# Altium schematic symbol library analog-devices.SCHLIB: 264 symbols (part 2 of 4)
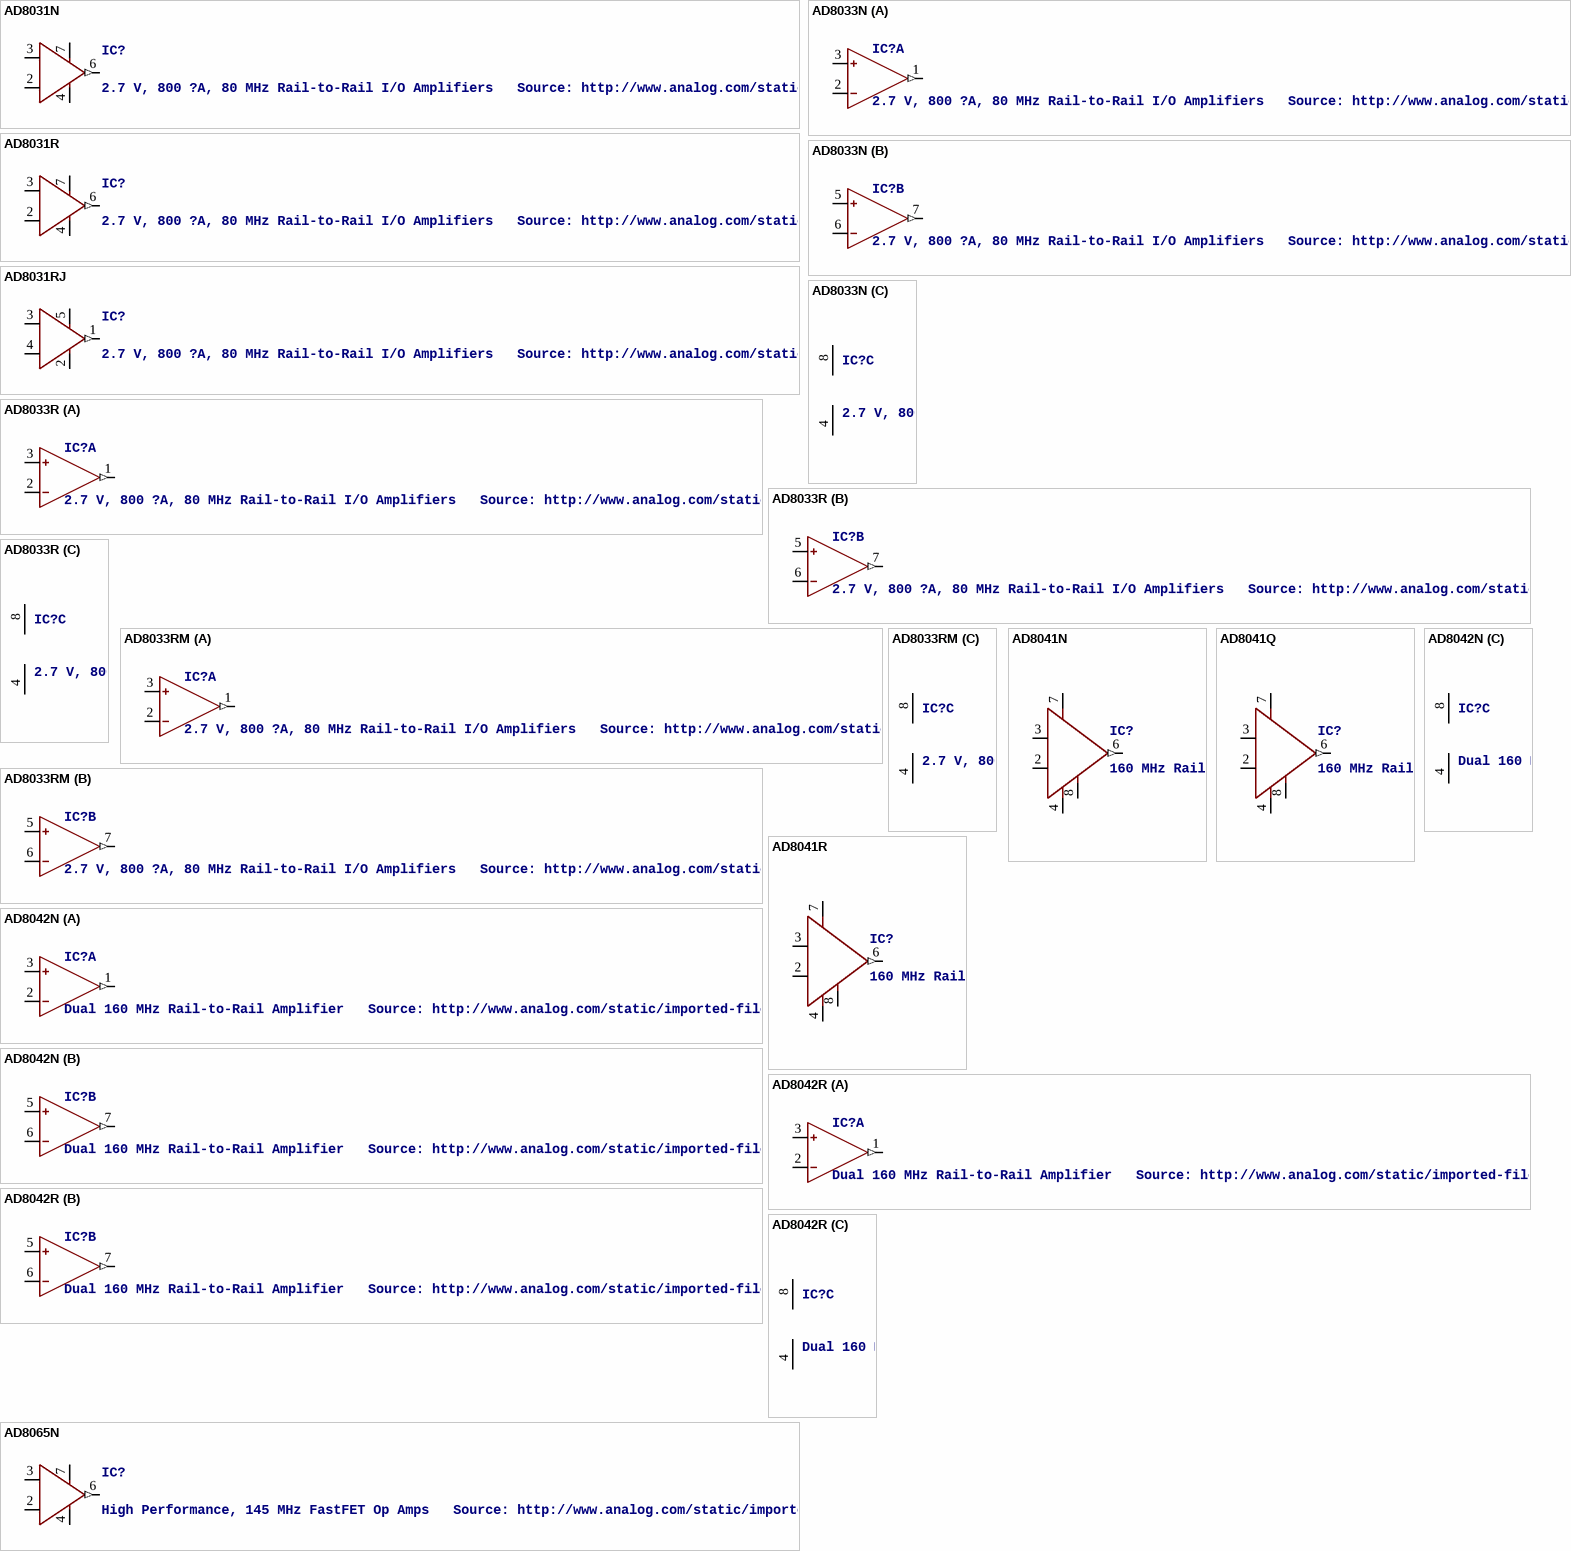
[diagram p44: symbols AD8031N to AD8065N]

## AD8041Q
designator IC?, comment 160 MHz Rail-to-Rail Amplifier with Disable   Source: http://www.analog.com/static/imported-files/data_sheets/AD8041.pdf
MPN: AD8041ANZ; OC_FARNELL: 1438577; OC_NEWARK: 15P0923
footprint DIL08
pins: 2 IN-, 3 IN+, 4 -VS, 6 OUT (out), 7 +VS, 8 DISABLE

## AD8041R
designator IC?, comment 160 MHz Rail-to-Rail Amplifier with Disable   Source: http://www.analog.com/static/imported-files/data_sheets/AD8041.pdf
MPN: AD8041ARZ; MF: ALTERA CORPORATION; OC_FARNELL: 1464831; OC_NEWARK: 88H0130
footprint SO8
pins: 2 IN-, 3 IN+, 4 -VS, 6 OUT (out), 7 +VS, 8 DISABLE

## AD8042N
designator IC?, comment Dual 160 MHz Rail-to-Rail Amplifier   Source: http://www.analog.com/static/imported-files/data_sheets/AD8042.pdf
MPN: AD8042AN; MF: ANALOG DEVICES; OC_FARNELL: 1540543; OC_NEWARK: 52F8033
footprint DIL08
part A pins: 1 OUT (out), 2 IN-, 3 IN+
part B pins: 5 IN+, 6 IN-, 7 OUT (out)
part C pins: 4 V- (power), 8 V+ (power)

## AD8042R
designator IC?, comment Dual 160 MHz Rail-to-Rail Amplifier   Source: http://www.analog.com/static/imported-files/data_sheets/AD8042.pdf
MPN: AD8042AR; MF: ALTERA CORPORATION; OC_FARNELL: 1424032; OC_NEWARK: 52F8034
footprint SO8
part A pins: 1 OUT (out), 2 IN-, 3 IN+
part B pins: 5 IN+, 6 IN-, 7 OUT (out)
part C pins: 4 V- (power), 8 V+ (power)

## AD8065N
designator IC?, comment High Performance, 145 MHz FastFET Op Amps   Source: http://www.analog.com/static/imported-files/data_sheets/AD8065_8066.pdf
OC_FARNELL: unknown; OC_NEWARK: unknown
footprint DIL08
pins: 2 IN-, 3 IN+, 4 -VS, 6 OUT (out), 7 +VS

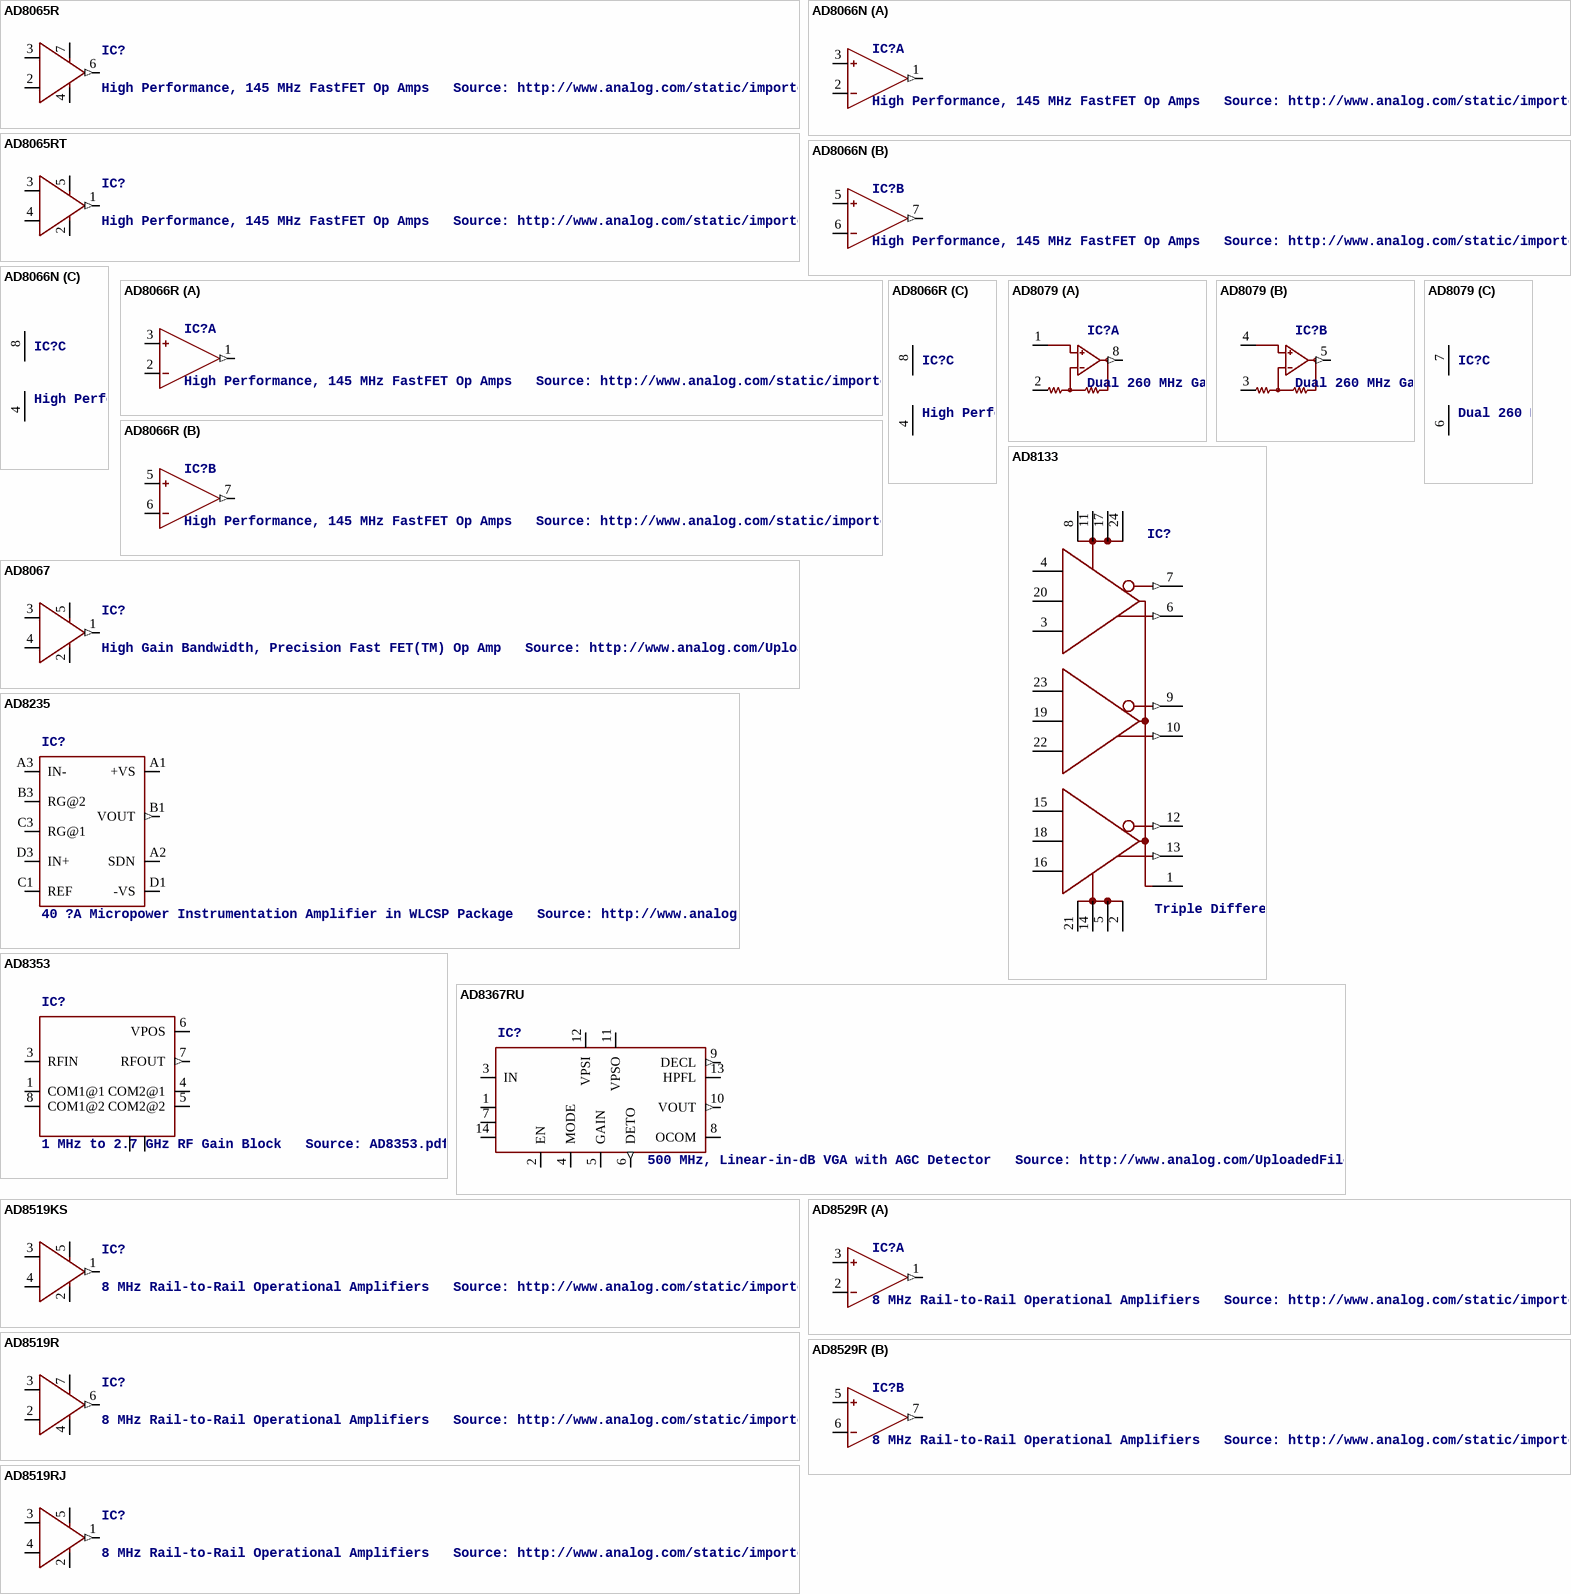
[diagram p12: symbols AD8065R to AD8529R]

## AD8065R
designator IC?, comment High Performance, 145 MHz FastFET Op Amps   Source: http://www.analog.com/static/imported-files/data_sheets/AD8065_8066.pdf
OC_FARNELL: unknown; OC_NEWARK: unknown
footprint SO8
pins: 2 IN-, 3 IN+, 4 -VS, 6 OUT (out), 7 +VS

## AD8065RT
designator IC?, comment High Performance, 145 MHz FastFET Op Amps   Source: http://www.analog.com/static/imported-files/data_sheets/AD8065_8066.pdf
MPN: AD8065ARTZ-REEL7; MF: ALTERA CORPORATION; OC_FARNELL: 1464845; OC_NEWARK: 59K6316
footprint SOT23-5
pins: 1 OUT (out), 2 -VS, 3 IN+, 4 IN-, 5 +VS

## AD8066N
designator IC?, comment High Performance, 145 MHz FastFET Op Amps   Source: http://www.analog.com/static/imported-files/data_sheets/AD8065_8066.pdf
OC_FARNELL: unknown; OC_NEWARK: unknown
footprint DIL08
part A pins: 1 OUT (out), 2 IN-, 3 IN+
part B pins: 5 IN+, 6 IN-, 7 OUT (out)
part C pins: 4 V- (power), 8 V+ (power)

## AD8066R
designator IC?, comment High Performance, 145 MHz FastFET Op Amps   Source: http://www.analog.com/static/imported-files/data_sheets/AD8065_8066.pdf
OC_FARNELL: unknown; OC_NEWARK: unknown
footprint SO8
part A pins: 1 OUT (out), 2 IN-, 3 IN+
part B pins: 5 IN+, 6 IN-, 7 OUT (out)
part C pins: 4 V- (power), 8 V+ (power)

## AD8067
designator IC?, comment High Gain Bandwidth, Precision Fast FET(TM) Op Amp   Source: http://www.analog.com/UploadedFiles/Data_Sheets/346131962AD8067_a.pdf
MPN: AD8067ARTZ-REEL7; MF: ALTERA CORPORATION; OC_FARNELL: 1464848; OC_NEWARK: 59K6326
footprint SOT23-5
pins: 1 OUT (out), 2 -VS, 3 IN+, 4 IN-, 5 +VS

## AD8079
designator IC?, comment Dual 260 MHz Gain = +2.0 & +2.2 Buffer   Source: http://www.analog.com/static/imported-files/data_sheets/AD8079.pdf
MPN: AD8079BRZ; MF: ALTERA CORPORATION; OC_FARNELL: 1838858; OC_NEWARK: 59K6340
footprint SO8
part A pins: 1 IN+, 2 GND, 8 OUT (out)
part B pins: 3 GND, 4 IN+, 5 OUT (out)
part C pins: 6 V- (power), 7 V+ (power)

## AD8133
designator IC?, comment Triple Differential Driver With Output Pull-Down   Source: http://www.analog.com .. 3832984220209AD8133_0.pdf
MPN: AD8133ACPZ-REEL7; MF: ALTERA CORPORATION; OC_FARNELL: unknown; OC_NEWARK: 59K6409
footprint LFCSP24
pins: 1 OPD, 2 VS-@1 (power), 3 -INA, 4 +INA, 5 VS-@2 (power), 6 -OUTA (out), 7 +OUTA (out), 8 VS+@1 (power), 9 +OUTB (out), 10 -OUTB (out), 11 VS+@2 (power), 12 +OUTC (out), 13 -OUTC (out), 14 VS-@3 (power), 15 +INC, 16 -INC, 17 VS+@3 (power), 18 VCOMC, 19 VCOMB, 20 VCOMA, 21 VS-@4 (power), 22 -INB, 23 +INB, 24 VS+@4 (power)

## AD8235
designator IC?, comment 40 ?A Micropower Instrumentation Amplifier in WLCSP Package   Source: http://www.analog.com/static/imported-files/data_sheets/AD8235.pdf
MPN: AD8235ACBZ-P7; OC_FARNELL: 1827361; OC_NEWARK: 35R0266
footprint BGA_CB11
pins: A1 +VS (power), A2 SDN, A3 IN-, B1 VOUT (out), B3 RG@2, C1 REF, C3 RG@1, D1 -VS (power), D3 IN+

## AD8353
designator IC?, comment 1 MHz to 2.7 GHz RF Gain Block   Source: AD8353.pdf
MPN: AD8353ACPZ-REEL7; MF: ALTERA CORPORATION; OC_FARNELL: 1346356; OC_NEWARK: 59K6665
footprint LFCSP_VD08
pins: 1 COM1@1, 3 RFIN, 4 COM2@1, 5 COM2@2, 6 VPOS (power), 7 RFOUT (out), 8 COM1@2, EXP@1, EXP@2

## AD8367RU
designator IC?, comment 500 MHz, Linear-in-dB VGA with AGC Detector   Source: http://www.analog.com/UploadedFiles/Data_Sheets/477808511AD8367_a.pdf
MPN: AD8367ARUZ-RL7; MF: ALTERA CORPORATION; OC_FARNELL: 1424121; OC_NEWARK: 59K6673
footprint TSSOP14
pins: 1 ICOM@1 (power), 2 EN, 3 IN, 4 MODE, 5 GAIN, 6 DETO (out), 7 ICOM@2 (power), 8 OCOM (power), 9 DECL (out), 10 VOUT (out), 11 VPSO (power), 12 VPSI (power), 13 HPFL, 14 ICOM@3 (power)

## AD8519KS
designator IC?, comment 8 MHz Rail-to-Rail Operational Amplifiers   Source: http://www.analog.com/static/imported-files/data_sheets/AD8519_8529.pdf
OC_FARNELL: unknown; OC_NEWARK: unknown
footprint SC70-5
pins: 1 OUT (out), 2 -VS, 3 IN+, 4 IN-, 5 +VS

## AD8519R
designator IC?, comment 8 MHz Rail-to-Rail Operational Amplifiers   Source: http://www.analog.com/static/imported-files/data_sheets/AD8519_8529.pdf
MPN: AD8519ARZ; OC_FARNELL: 9603840; OC_NEWARK: 19M8912
footprint SO8
pins: 2 IN-, 3 IN+, 4 -VS, 6 OUT (out), 7 +VS

## AD8519RJ
designator IC?, comment 8 MHz Rail-to-Rail Operational Amplifiers   Source: http://www.analog.com/static/imported-files/data_sheets/AD8519_8529.pdf
MPN: AD8519ARTZ-REEL7; MF: ALTERA CORPORATION; OC_FARNELL: 1464960; OC_NEWARK: 59K6794
footprint SOT23-5
pins: 1 OUT (out), 2 -VS, 3 IN+, 4 IN-, 5 +VS

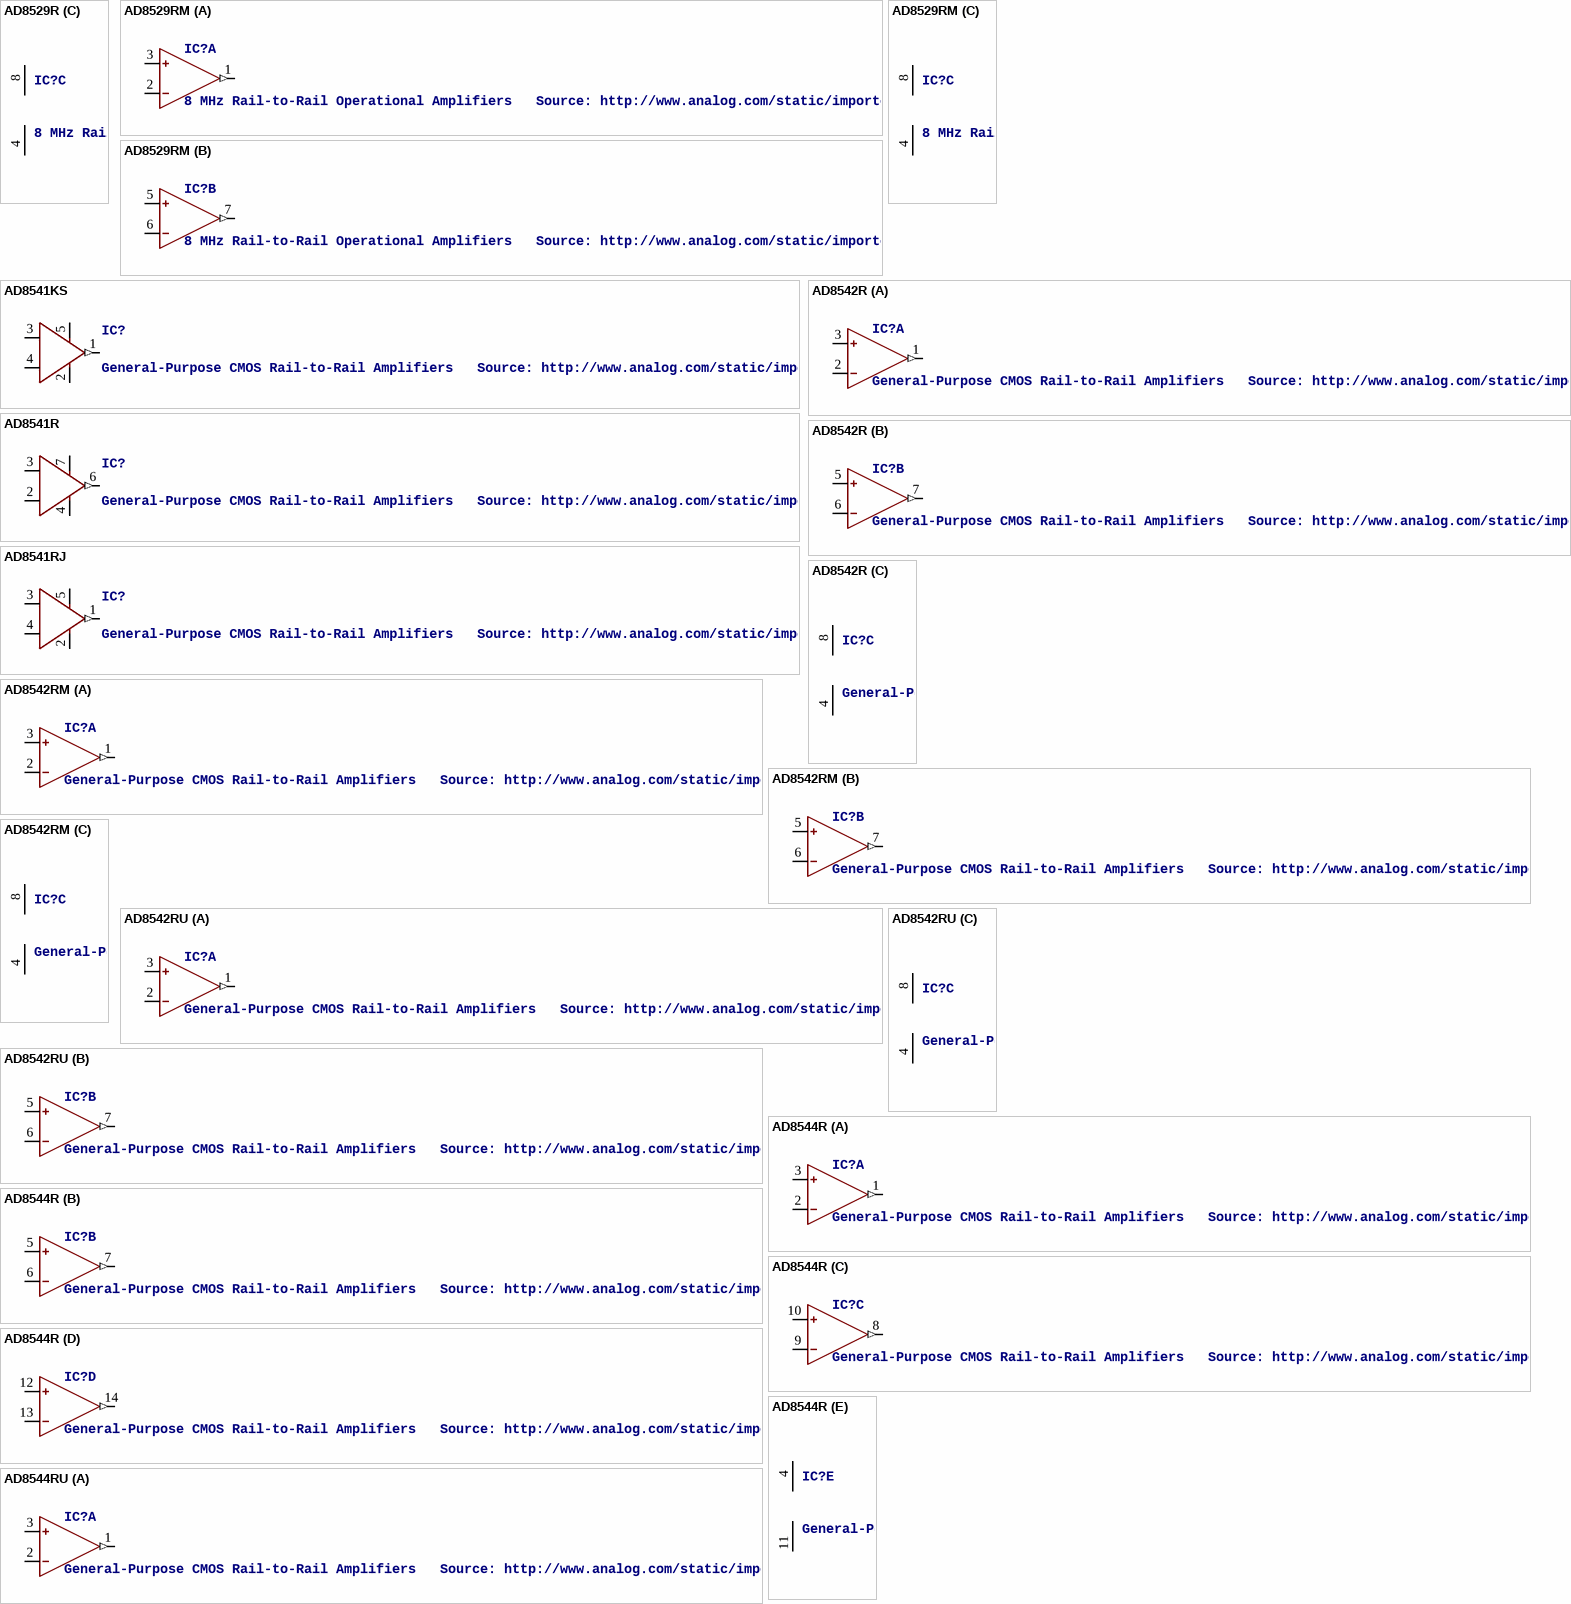
[diagram p13: symbols AD8529R to AD8544RU]

## AD8529R
designator IC?, comment 8 MHz Rail-to-Rail Operational Amplifiers   Source: http://www.analog.com/static/imported-files/data_sheets/AD8519_8529.pdf
MPN: AD8529ARZ; MF: ALTERA CORPORATION; OC_FARNELL: unknown; OC_NEWARK: 59K6807
footprint SO8
part A pins: 1 OUT (out), 2 IN-, 3 IN+
part B pins: 5 IN+, 6 IN-, 7 OUT (out)
part C pins: 4 V- (power), 8 V+ (power)

## AD8529RM
designator IC?, comment 8 MHz Rail-to-Rail Operational Amplifiers   Source: http://www.analog.com/static/imported-files/data_sheets/AD8519_8529.pdf
OC_FARNELL: 1424141; OC_NEWARK: unknown
footprint MSOP08
part A pins: 1 OUT (out), 2 IN-, 3 IN+
part B pins: 5 IN+, 6 IN-, 7 OUT (out)
part C pins: 4 V- (power), 8 V+ (power)

## AD8541KS
designator IC?, comment General-Purpose CMOS Rail-to-Rail Amplifiers   Source: http://www.analog.com/static/imported-files/data_sheets/AD8541_8542_8544.pdf
MPN: AD8541AKSZ-REEL7; MF: ALTERA CORPORATION; OC_FARNELL: 1333253; OC_NEWARK: 59K6818
footprint SC70-5
pins: 1 OUT (out), 2 -VS, 3 IN+, 4 IN-, 5 +VS

## AD8541R
designator IC?, comment General-Purpose CMOS Rail-to-Rail Amplifiers   Source: http://www.analog.com/static/imported-files/data_sheets/AD8541_8542_8544.pdf
MPN: AD8541ARZ; OC_FARNELL: 9603859; OC_NEWARK: 31M4547
footprint SO8
pins: 2 IN-, 3 IN+, 4 -VS, 6 OUT (out), 7 +VS

## AD8541RJ
designator IC?, comment General-Purpose CMOS Rail-to-Rail Amplifiers   Source: http://www.analog.com/static/imported-files/data_sheets/AD8541_8542_8544.pdf
MPN: AD8541ARTZ-REEL7; MF: ALTERA CORPORATION; OC_FARNELL: 1464963; OC_NEWARK: 88H0268
footprint SOT23-5
pins: 1 OUT (out), 2 -VS, 3 IN+, 4 IN-, 5 +VS

## AD8542R
designator IC?, comment General-Purpose CMOS Rail-to-Rail Amplifiers   Source: http://www.analog.com/static/imported-files/data_sheets/AD8541_8542_8544.pdf
MPN: AD8542ARZ-REEL; MF: ALTERA CORPORATION; OC_FARNELL: 1424150; OC_NEWARK: 59K6827
footprint SO8
part A pins: 1 OUT (out), 2 IN-, 3 IN+
part B pins: 5 IN+, 6 IN-, 7 OUT (out)
part C pins: 4 V- (power), 8 V+ (power)

## AD8542RM
designator IC?, comment General-Purpose CMOS Rail-to-Rail Amplifiers   Source: http://www.analog.com/static/imported-files/data_sheets/AD8541_8542_8544.pdf
MPN: AD8542ARZ; OC_FARNELL: 1464965; OC_NEWARK: 19M0965
footprint MSOP08
part A pins: 1 OUT (out), 2 IN-, 3 IN+
part B pins: 5 IN+, 6 IN-, 7 OUT (out)
part C pins: 4 V- (power), 8 V+ (power)

## AD8542RU
designator IC?, comment General-Purpose CMOS Rail-to-Rail Amplifiers   Source: http://www.analog.com/static/imported-files/data_sheets/AD8541_8542_8544.pdf
MPN: AD8542ARUZ; MF: ALTERA CORPORATION; OC_FARNELL: 1333256; OC_NEWARK: 88H0269
footprint TSSOP8
part A pins: 1 OUT (out), 2 IN-, 3 IN+
part B pins: 5 IN+, 6 IN-, 7 OUT (out)
part C pins: 4 V- (power), 8 V+ (power)

## AD8544R
designator IC?, comment General-Purpose CMOS Rail-to-Rail Amplifiers   Source: http://www.analog.com/static/imported-files/data_sheets/AD8541_8542_8544.pdf
MPN: AD8544ARZ; OC_FARNELL: 9425748; OC_NEWARK: 19M0966
footprint SO14
part A pins: 1 OUT (out), 2 IN-, 3 IN+
part B pins: 5 IN+, 6 IN-, 7 OUT (out)
part C pins: 8 OUT (out), 9 IN-, 10 IN+
part D pins: 12 IN+, 13 IN-, 14 OUT (out)
part E pins: 4 V+ (power), 11 V- (power)

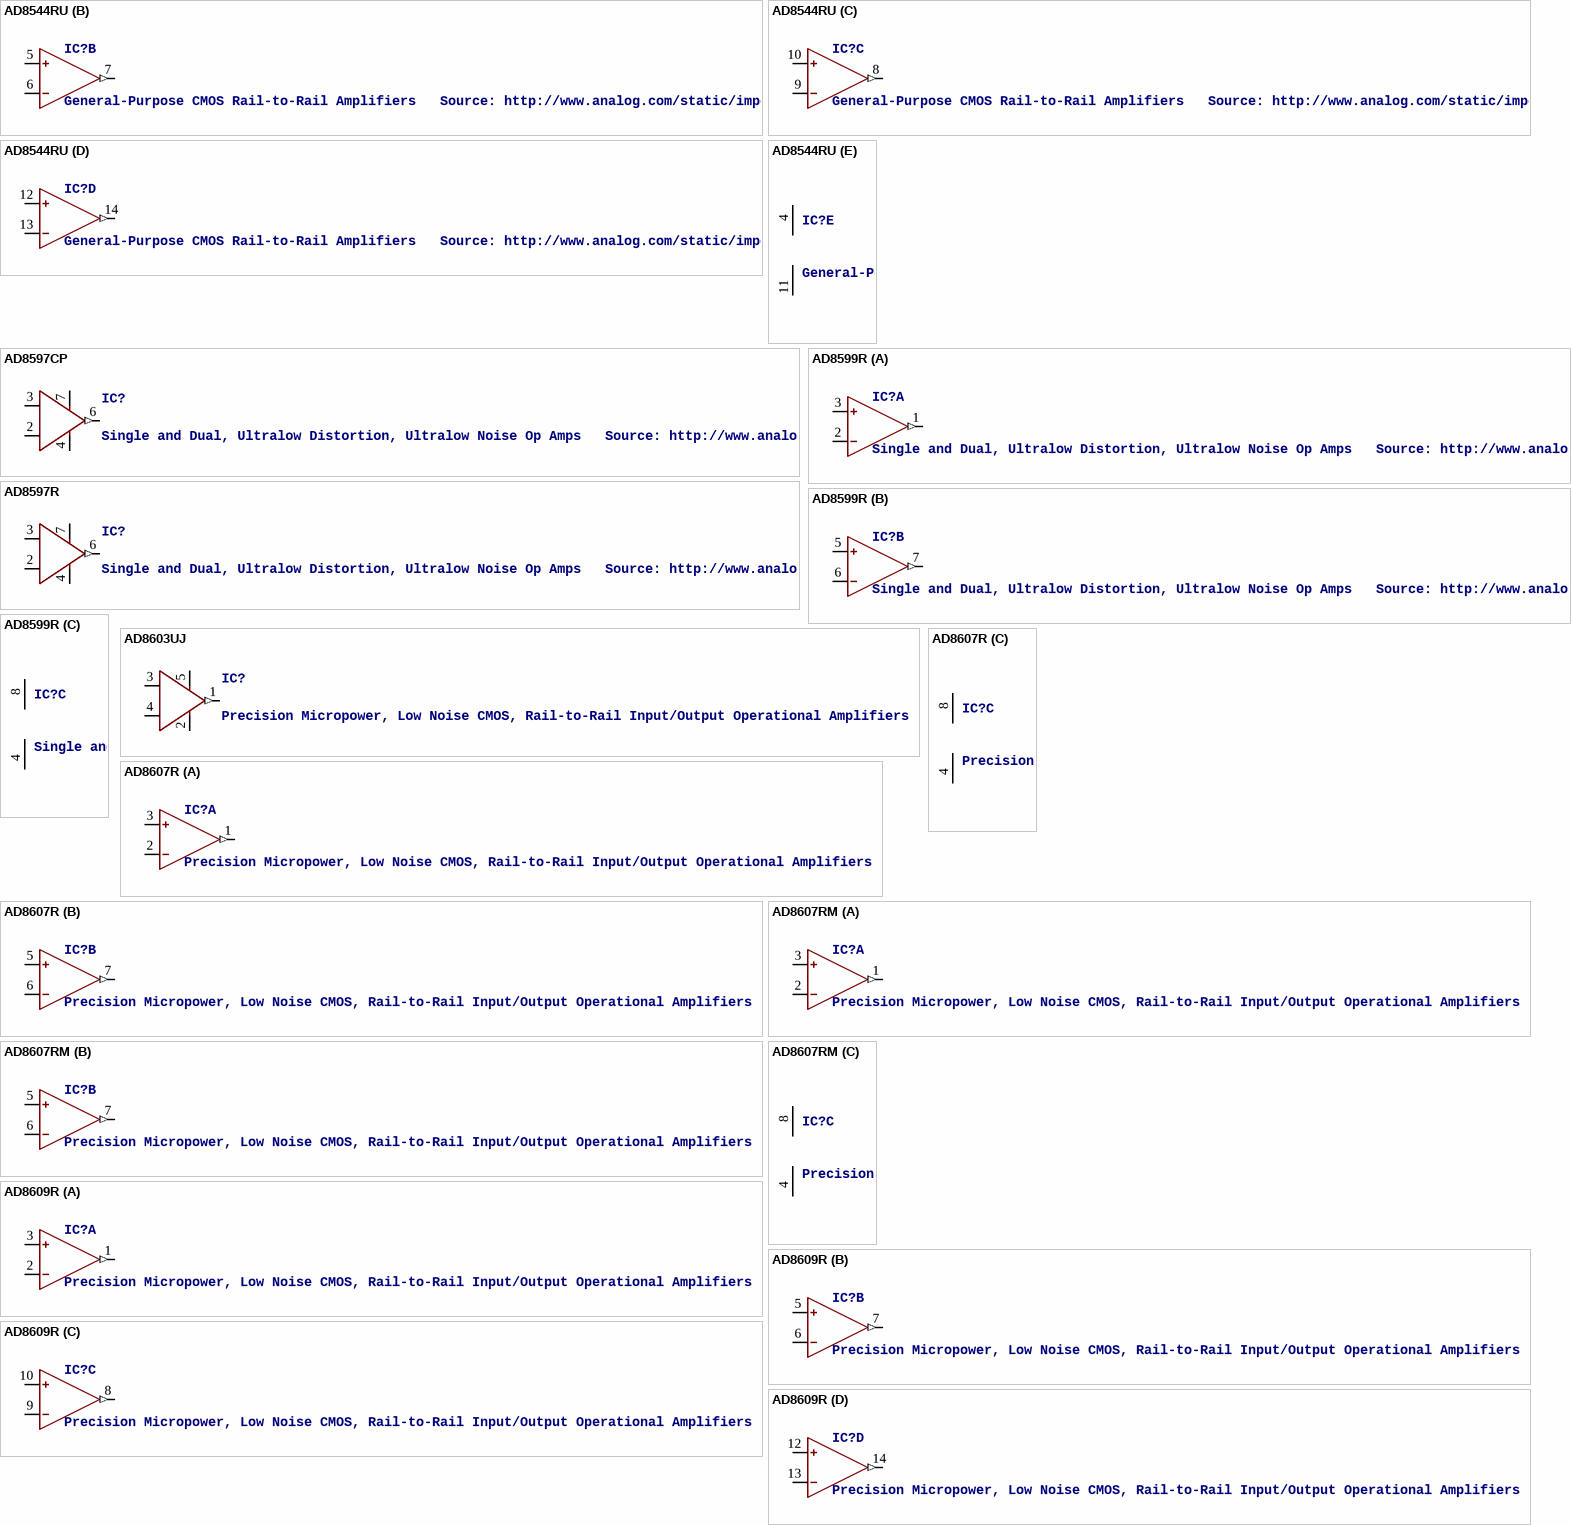
[diagram p14: symbols AD8544RU to AD8609R]

## AD8544RU
designator IC?, comment General-Purpose CMOS Rail-to-Rail Amplifiers   Source: http://www.analog.com/static/imported-files/data_sheets/AD8541_8542_8544.pdf
MPN: AD8544ARUZ; OC_FARNELL: unknown; OC_NEWARK: 15P1001
footprint TSSOP14
part A pins: 1 OUT (out), 2 IN-, 3 IN+
part B pins: 5 IN+, 6 IN-, 7 OUT (out)
part C pins: 8 OUT (out), 9 IN-, 10 IN+
part D pins: 12 IN+, 13 IN-, 14 OUT (out)
part E pins: 4 V+ (power), 11 V- (power)

## AD8597CP
designator IC?, comment Single and Dual, Ultralow Distortion, Ultralow Noise Op Amps   Source: http://www.analog.com/static/imported-files/data_sheets/AD8597_8599.pdf
OC_FARNELL: unknown; OC_NEWARK: unknown
footprint LFCSP8
pins: 2 IN-, 3 IN+, 4 -VS, 6 OUT (out), 7 +VS

## AD8597R
designator IC?, comment Single and Dual, Ultralow Distortion, Ultralow Noise Op Amps   Source: http://www.analog.com/static/imported-files/data_sheets/AD8597_8599.pdf
MPN: AD8597ARZ; OC_FARNELL: 1701258; OC_NEWARK: 19P8303
footprint SO8
pins: 2 IN-, 3 IN+, 4 -VS, 6 OUT (out), 7 +VS

## AD8599R
designator IC?, comment Single and Dual, Ultralow Distortion, Ultralow Noise Op Amps   Source: http://www.analog.com/static/imported-files/data_sheets/AD8597_8599.pdf
MPN: AD8599ARZ; OC_FARNELL: 1438872; OC_NEWARK: 34M5072
footprint SO8
part A pins: 1 OUT (out), 2 IN-, 3 IN+
part B pins: 5 IN+, 6 IN-, 7 OUT (out)
part C pins: 4 V- (power), 8 V+ (power)

## AD8603UJ
designator IC?, comment Precision Micropower, Low Noise CMOS, Rail-to-Rail Input/Output Operational Amplifiers   Source: http://www.analog.com/static/imported-files/data_sheets/AD8603_8607_8609.pdf
MPN: AD8603AUJZ-REEL7; MF: ALTERA CORPORATION; OC_FARNELL: 1651290; OC_NEWARK: 59K6904
footprint SOT23-5
pins: 1 OUT (out), 2 -VS, 3 IN+, 4 IN-, 5 +VS

## AD8607R
designator IC?, comment Precision Micropower, Low Noise CMOS, Rail-to-Rail Input/Output Operational Amplifiers   Source: http://www.analog.com/static/imported-files/data_sheets/AD8603_8607_8609.pdf
MPN: AD8607ARMZ-R2; OC_FARNELL: 1651293; OC_NEWARK: 19M8927
footprint SO8
part A pins: 1 OUT (out), 2 IN-, 3 IN+
part B pins: 5 IN+, 6 IN-, 7 OUT (out)
part C pins: 4 V- (power), 8 V+ (power)

## AD8607RM
designator IC?, comment Precision Micropower, Low Noise CMOS, Rail-to-Rail Input/Output Operational Amplifiers   Source: http://www.analog.com/static/imported-files/data_sheets/AD8603_8607_8609.pdf
MPN: AD8607ARMZ-REEL; MF: ALTERA CORPORATION; OC_FARNELL: 1464990; OC_NEWARK: 59K6925
footprint MSOP08
part A pins: 1 OUT (out), 2 IN-, 3 IN+
part B pins: 5 IN+, 6 IN-, 7 OUT (out)
part C pins: 4 V- (power), 8 V+ (power)

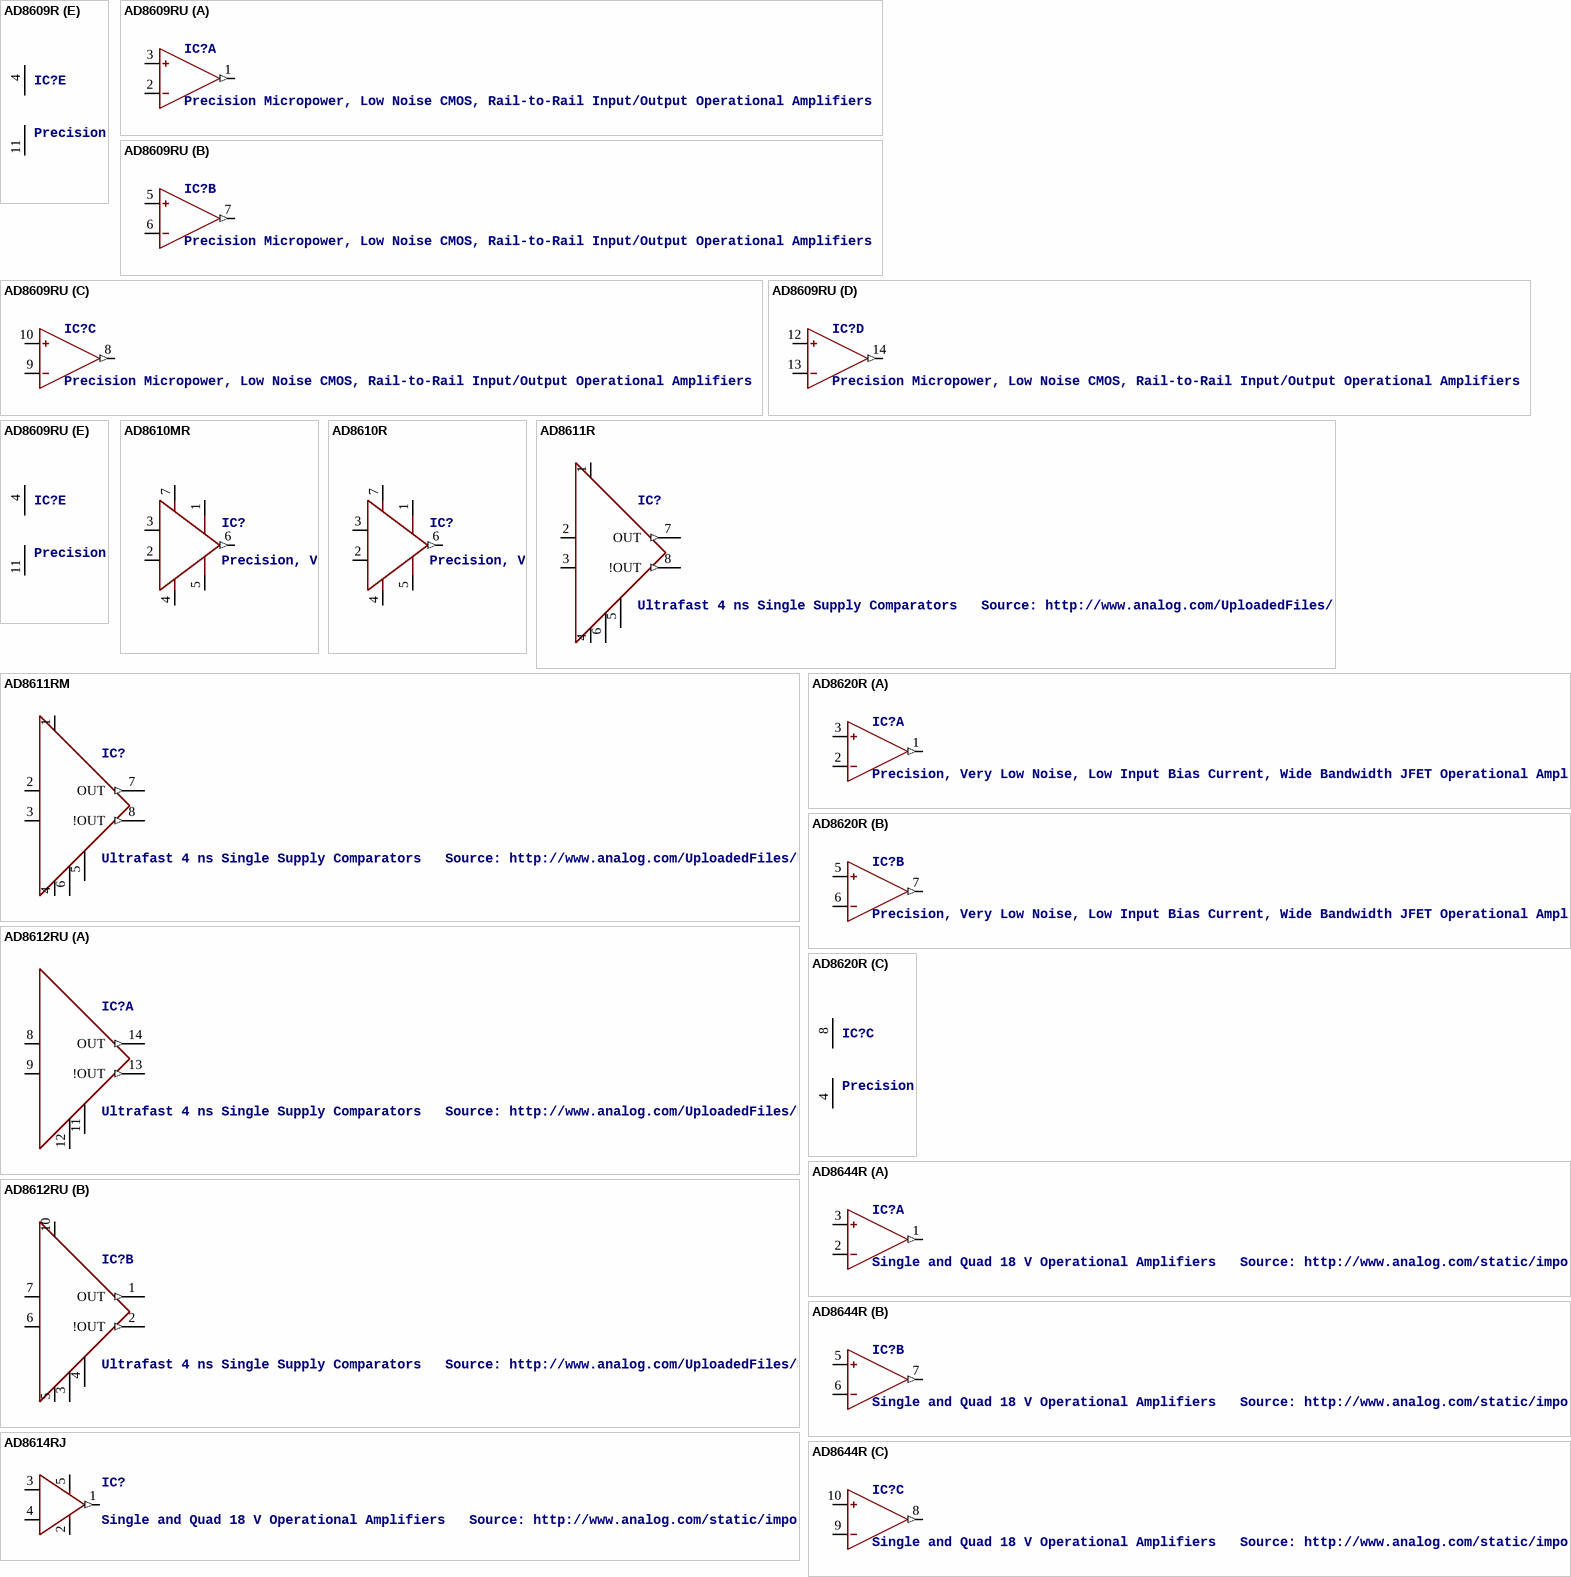
[diagram p15: symbols AD8609R to AD8644R]

## AD8609R
designator IC?, comment Precision Micropower, Low Noise CMOS, Rail-to-Rail Input/Output Operational Amplifiers   Source: http://www.analog.com/static/imported-files/data_sheets/AD8603_8607_8609.pdf
MPN: AD8609ARZ; OC_FARNELL: 1581951; OC_NEWARK: 19M0976
footprint SO14
part A pins: 1 OUT (out), 2 IN-, 3 IN+
part B pins: 5 IN+, 6 IN-, 7 OUT (out)
part C pins: 8 OUT (out), 9 IN-, 10 IN+
part D pins: 12 IN+, 13 IN-, 14 OUT (out)
part E pins: 4 V+ (power), 11 V- (power)

## AD8609RU
designator IC?, comment Precision Micropower, Low Noise CMOS, Rail-to-Rail Input/Output Operational Amplifiers   Source: http://www.analog.com/static/imported-files/data_sheets/AD8603_8607_8609.pdf
MPN: AD8609ARUZ; MF: ALTERA CORPORATION; OC_FARNELL: 1464994; OC_NEWARK: 59K6934
footprint TSSOP14
part A pins: 1 OUT (out), 2 IN-, 3 IN+
part B pins: 5 IN+, 6 IN-, 7 OUT (out)
part C pins: 8 OUT (out), 9 IN-, 10 IN+
part D pins: 12 IN+, 13 IN-, 14 OUT (out)
part E pins: 4 V+ (power), 11 V- (power)

## AD8610MR
designator IC?, comment Precision, Very Low Noise, Low Input Bias Current, Wide Bandwidth JFET Operational Amplifiers   Source: http://www.analog.com/static/imported-files/data_sheets/AD8610_8620.pdf
MPN: AD8610ARMZ-REEL; MF: ALTERA CORPORATION; OC_FARNELL: 1424175; OC_NEWARK: 59K6939
footprint MSOP08
pins: 1 OFF@1, 2 IN-, 3 IN+, 4 -VS, 5 OFF@2, 6 OUT (out), 7 +VS

## AD8610R
designator IC?, comment Precision, Very Low Noise, Low Input Bias Current, Wide Bandwidth JFET Operational Amplifiers   Source: http://www.analog.com/static/imported-files/data_sheets/AD8610_8620.pdf
MPN: AD8610BRZ; MF: ALTERA CORPORATION; OC_FARNELL: 8621578; OC_NEWARK: 59K6944
footprint SO8
pins: 1 OFF@1, 2 IN-, 3 IN+, 4 -VS, 5 OFF@2, 6 OUT (out), 7 +VS

## AD8611R
designator IC?, comment Ultrafast 4 ns Single Supply Comparators   Source: http://www.analog.com/UploadedFiles/Data_Sheets/703465986AD8611_2_0.pdf Upgrade for LT1394 and LT1016 Designs
MPN: AD8611ARMZ-R2; OC_FARNELL: 1319472; OC_NEWARK: 19M8930
footprint SO8
pins: 1 V+ (power), 2 IN+, 3 IN-, 4 V- (power), 5 L, 6 GND (power), 7 OUT (out), 8 !OUT (out)

## AD8611RM
designator IC?, comment Ultrafast 4 ns Single Supply Comparators   Source: http://www.analog.com/UploadedFiles/Data_Sheets/703465986AD8611_2_0.pdf Upgrade for LT1394 and LT1016 Designs
MPN: AD8611ARMZ-R2; OC_FARNELL: 1464995; OC_NEWARK: 19M8930
footprint MSOP08
pins: 1 V+ (power), 2 IN+, 3 IN-, 4 V- (power), 5 L, 6 GND (power), 7 OUT (out), 8 !OUT (out)

## AD8612RU
designator IC?, comment Ultrafast 4 ns Single Supply Comparators   Source: http://www.analog.com/UploadedFiles/Data_Sheets/703465986AD8611_2_0.pdf Upgrade for LT1394 and LT1016 Designs
MPN: AD8612ARUZ; MF: ALTERA CORPORATION; OC_FARNELL: 1464996; OC_NEWARK: 88H0301
footprint TSSOP14
part A pins: 8 IN+, 9 IN-, 11 L, 12 GND (power), 13 !OUT (out), 14 OUT (out)
part B pins: 1 OUT (out), 2 !OUT (out), 3 GND (power), 4 L, 5 V- (power), 6 IN-, 7 IN+, 10 V+ (power)

## AD8614RJ
designator IC?, comment Single and Quad 18 V Operational Amplifiers   Source: http://www.analog.com/static/imported-files/data_sheets/AD8614_8644.pdf
MPN: AD8614ARTZ-REEL7; MF: ALTERA CORPORATION; OC_FARNELL: 1464998; OC_NEWARK: 88H0303
footprint SOT23-5
pins: 1 OUT (out), 2 -VS, 3 IN+, 4 IN-, 5 +VS

## AD8620R
designator IC?, comment Precision, Very Low Noise, Low Input Bias Current, Wide Bandwidth JFET Operational Amplifiers   Source: http://www.analog.com/static/imported-files/data_sheets/AD8610_8620.pdf
MPN: AD8620ARZ; MF: ALTERA CORPORATION; OC_FARNELL: 9994386; OC_NEWARK: 59K6972
footprint SO8
part A pins: 1 OUT (out), 2 IN-, 3 IN+
part B pins: 5 IN+, 6 IN-, 7 OUT (out)
part C pins: 4 V- (power), 8 V+ (power)

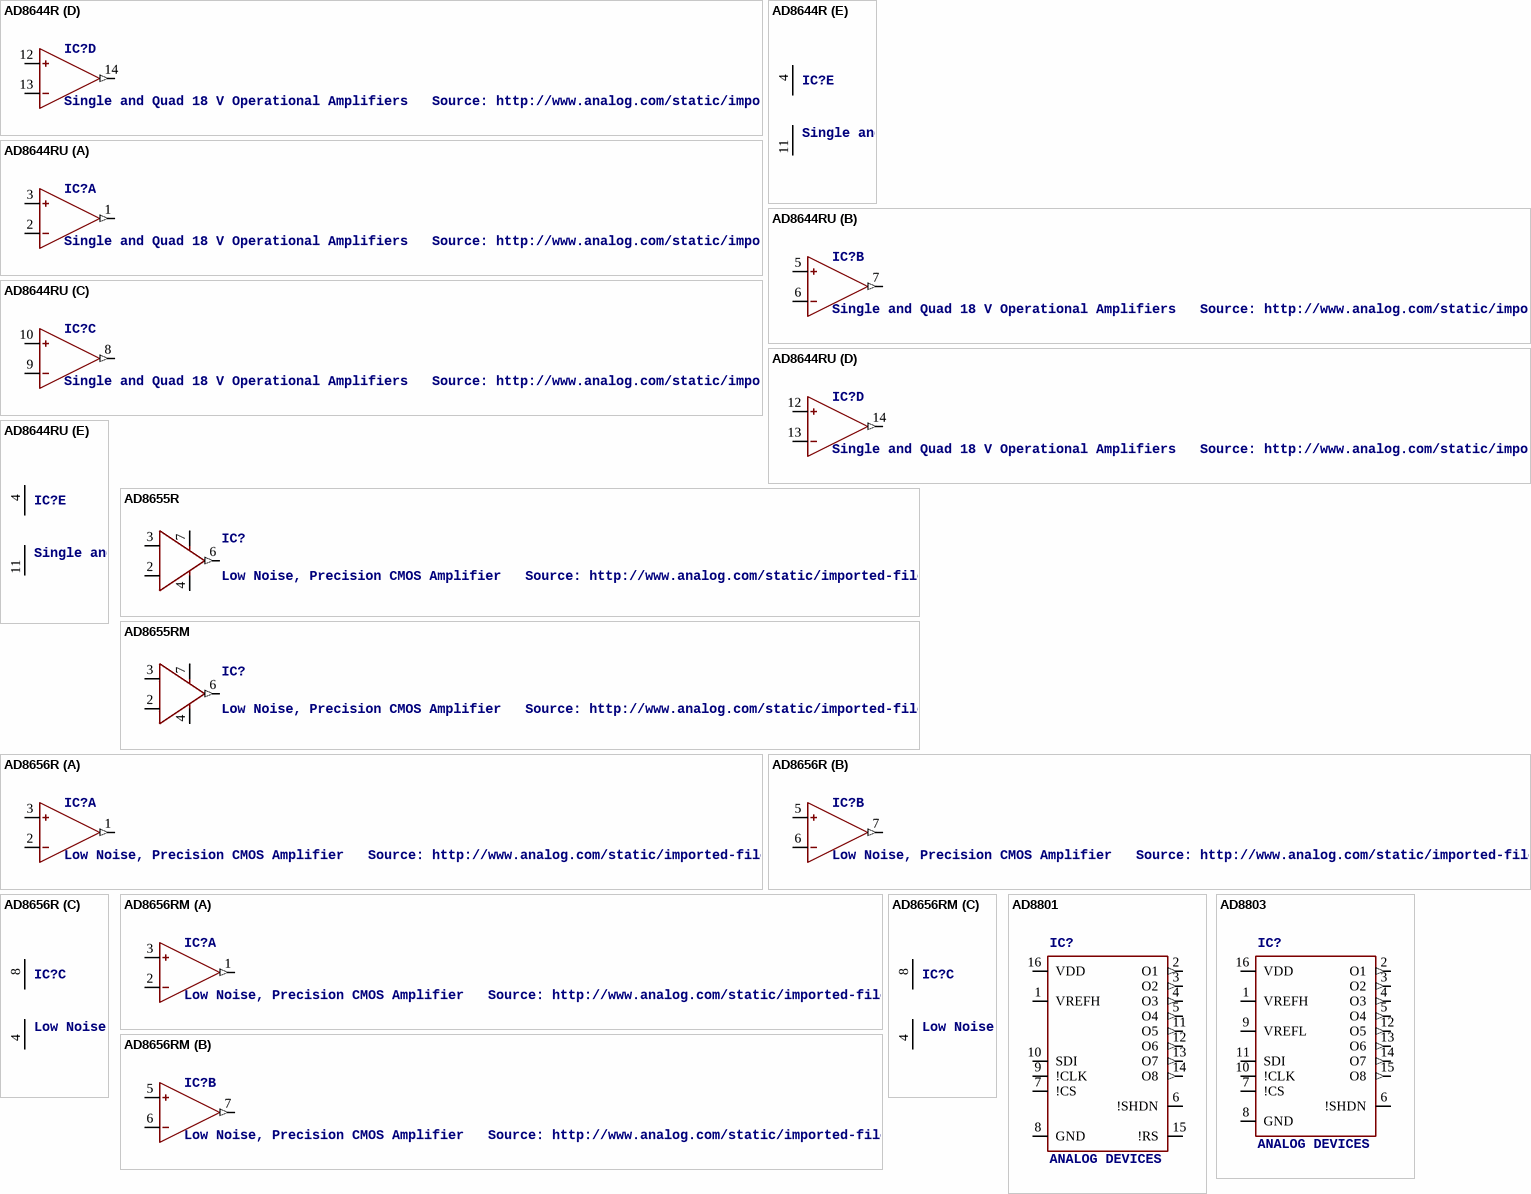
[diagram p16: symbols AD8644R to AD8803]

## AD8644R
designator IC?, comment Single and Quad 18 V Operational Amplifiers   Source: http://www.analog.com/static/imported-files/data_sheets/AD8614_8644.pdf
MPN: AD8644ARZ; MF: ALTERA CORPORATION; OC_FARNELL: 1438873; OC_NEWARK: 59K7037
footprint SO14
part A pins: 1 OUT (out), 2 IN-, 3 IN+
part B pins: 5 IN+, 6 IN-, 7 OUT (out)
part C pins: 8 OUT (out), 9 IN-, 10 IN+
part D pins: 12 IN+, 13 IN-, 14 OUT (out)
part E pins: 4 V+ (power), 11 V- (power)

## AD8644RU
designator IC?, comment Single and Quad 18 V Operational Amplifiers   Source: http://www.analog.com/static/imported-files/data_sheets/AD8614_8644.pdf
MPN: AD8644ARUZ; MF: ALTERA CORPORATION; OC_FARNELL: 1438873; OC_NEWARK: 59K7036
footprint TSSOP14
part A pins: 1 OUT (out), 2 IN-, 3 IN+
part B pins: 5 IN+, 6 IN-, 7 OUT (out)
part C pins: 8 OUT (out), 9 IN-, 10 IN+
part D pins: 12 IN+, 13 IN-, 14 OUT (out)
part E pins: 4 V+ (power), 11 V- (power)

## AD8655R
designator IC?, comment Low Noise, Precision CMOS Amplifier   Source: http://www.analog.com/static/imported-files/data_sheets/AD8655_8656.pdf
MPN: AD8655ARMZ-REEL; MF: ALTERA CORPORATION; OC_FARNELL: 1078267; OC_NEWARK: 59K7050
footprint SO8
pins: 2 IN-, 3 IN+, 4 -VS, 6 OUT (out), 7 +VS

## AD8655RM
designator IC?, comment Low Noise, Precision CMOS Amplifier   Source: http://www.analog.com/static/imported-files/data_sheets/AD8655_8656.pdf
MPN: AD8655ARZ; MF: ALTERA CORPORATION; OC_FARNELL: 1078267; OC_NEWARK: 59K7052
footprint MSOP08
pins: 2 IN-, 3 IN+, 4 -VS, 6 OUT (out), 7 +VS

## AD8656R
designator IC?, comment Low Noise, Precision CMOS Amplifier   Source: http://www.analog.com/static/imported-files/data_sheets/AD8655_8656.pdf
MPN: AD8656ARZ; OC_FARNELL: 1117887; OC_NEWARK: 19M0993
footprint SO8
part A pins: 1 OUT (out), 2 IN-, 3 IN+
part B pins: 5 IN+, 6 IN-, 7 OUT (out)
part C pins: 4 V- (power), 8 V+ (power)

## AD8656RM
designator IC?, comment Low Noise, Precision CMOS Amplifier   Source: http://www.analog.com/static/imported-files/data_sheets/AD8655_8656.pdf
MPN: AD8656ARMZ; OC_FARNELL: 1117887; OC_NEWARK: 34P3252
footprint MSOP08
part A pins: 1 OUT (out), 2 IN-, 3 IN+
part B pins: 5 IN+, 6 IN-, 7 OUT (out)
part C pins: 4 V- (power), 8 V+ (power)

## AD8801
designator IC?, comment ANALOG DEVICES
OC_FARNELL: unknown; OC_NEWARK: unknown
footprint SOIC16N
pins: 1 VREFH, 2 O1 (out), 3 O2 (out), 4 O3 (out), 5 O4 (out), 6 !SHDN, 7 !CS, 8 GND (power), 9 !CLK, 10 SDI, 11 O5 (out), 12 O6 (out), 13 O7 (out), 14 O8 (out), 15 !RS, 16 VDD (power)

## AD8803
designator IC?, comment ANALOG DEVICES
OC_FARNELL: unknown; OC_NEWARK: unknown
footprint SOIC16N
pins: 1 VREFH, 2 O1 (out), 3 O2 (out), 4 O3 (out), 5 O4 (out), 6 !SHDN, 7 !CS, 8 GND (power), 9 VREFL, 10 !CLK, 11 SDI, 12 O5 (out), 13 O6 (out), 14 O7 (out), 15 O8 (out), 16 VDD (power)

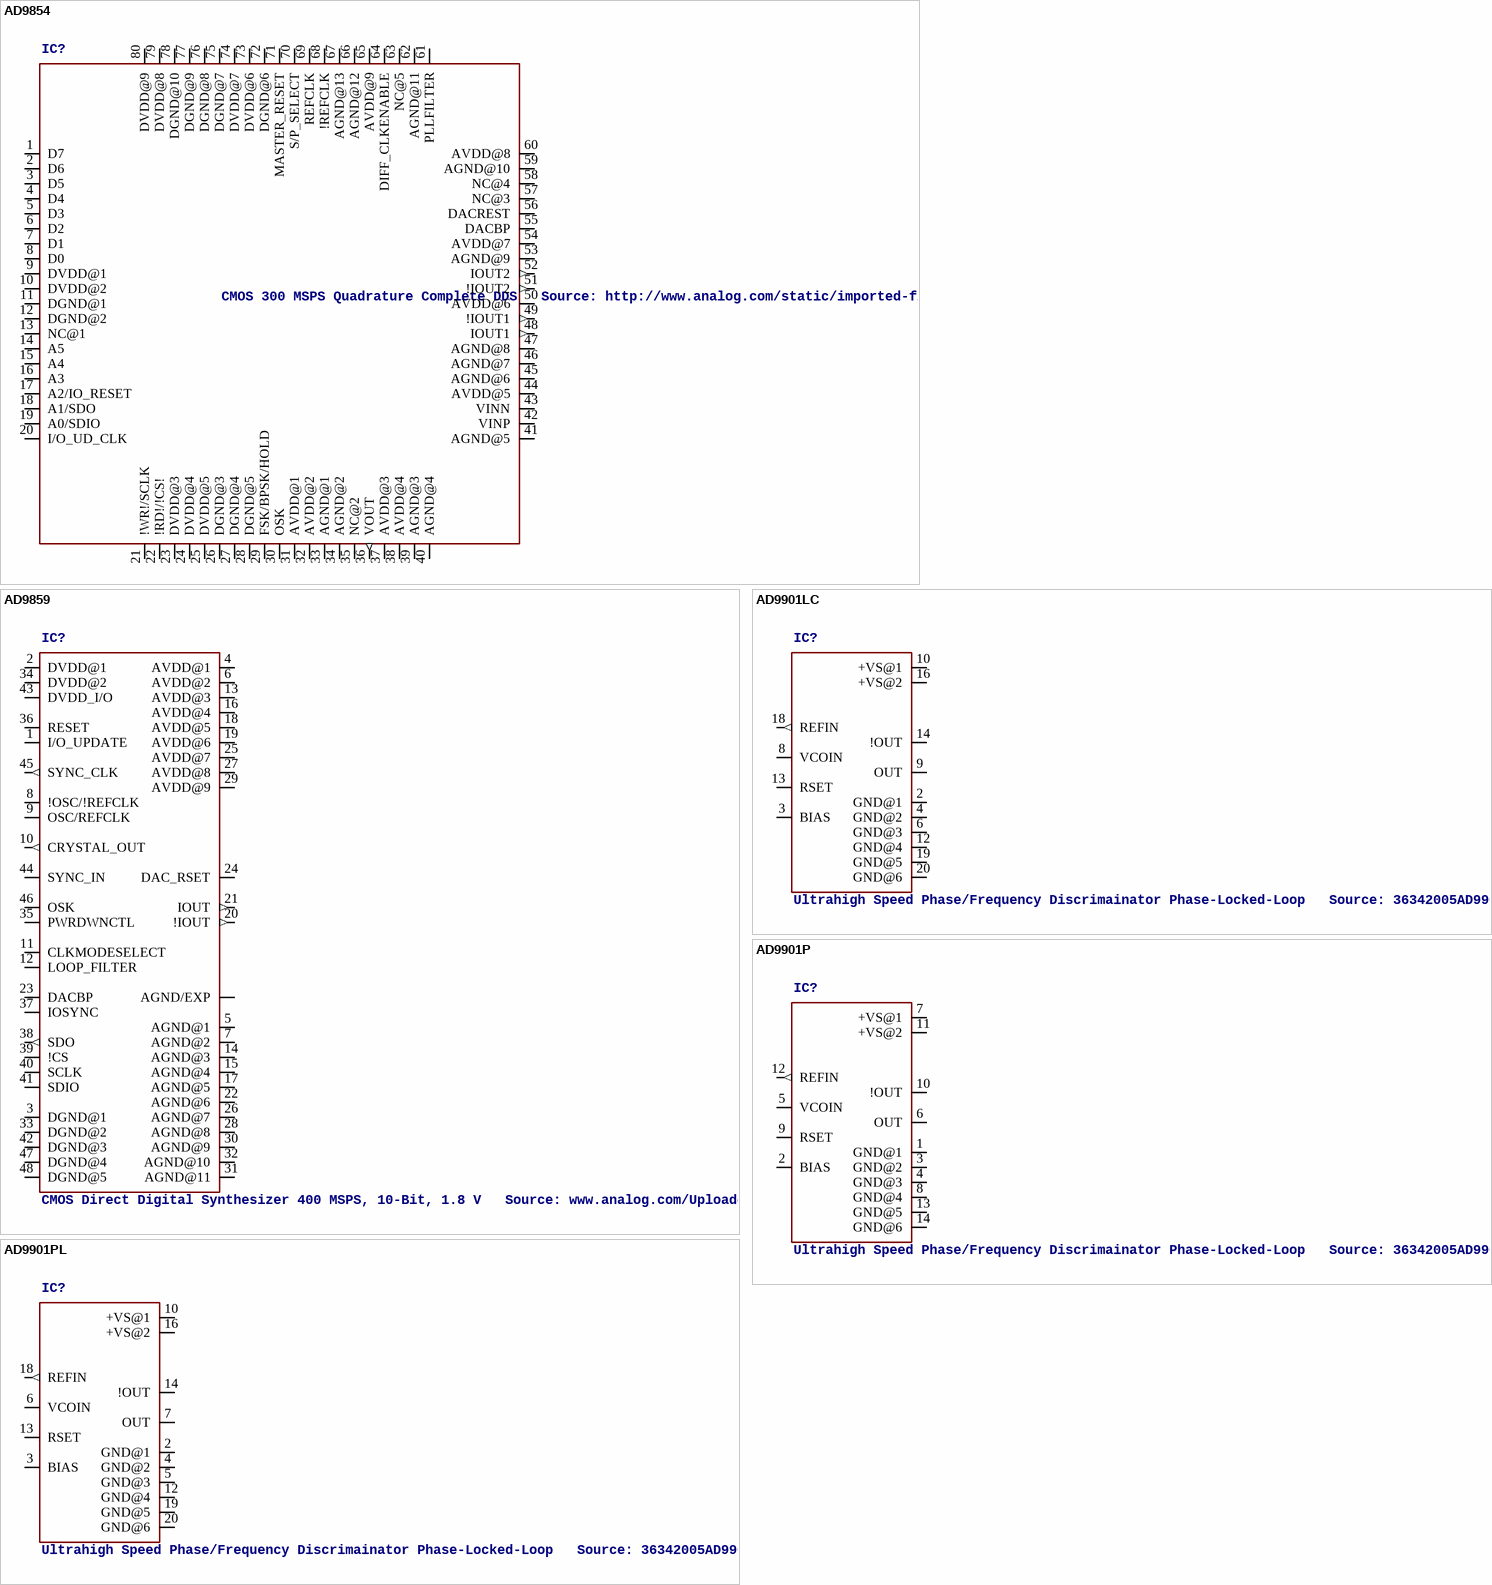
[diagram p17: symbols AD9854 to AD9901PL]

## AD9854
designator IC?, comment CMOS 300 MSPS Quadrature Complete DDS   Source: http://www.analog.com/static/imported-files/data_sheets/AD9854.pdf
MPN: AD9854ASTZ; OC_FARNELL: unknown; OC_NEWARK: 15P1074
footprint LQFP80
pins: 1 D7 (hiz), 2 D6 (hiz), 3 D5 (hiz), 4 D4 (hiz), 5 D3 (hiz), 6 D2 (hiz), 7 D1 (hiz), 8 D0 (hiz), 9 DVDD@1 (power), 10 DVDD@2 (power), 11 DGND@1 (power), 12 DGND@2 (power), 13 NC@1, 14 A5, 15 A4, 16 A3, 17 A2/IO_RESET, 18 A1/SDO, 19 A0/SDIO, 20 I/O_UD_CLK, 21 !WR!/SCLK, 22 !RD!/!CS!, 23 DVDD@3 (power), 24 DVDD@4 (power), 25 DVDD@5 (power), 26 DGND@3 (power), 27 DGND@4 (power), 28 DGND@5 (power), 29 FSK/BPSK/HOLD, 30 OSK, 31 AVDD@1 (power), 32 AVDD@2 (power), 33 AGND@1 (power), 34 AGND@2 (power), 35 NC@2, 36 VOUT (out), 37 AVDD@3 (power), 38 AVDD@4 (power), 39 AGND@3 (power), 40 AGND@4 (power), 41 AGND@5 (power), 42 VINP, 43 VINN, 44 AVDD@5 (power), 45 AGND@6 (power), 46 AGND@7 (power), 47 AGND@8 (power), 48 IOUT1 (out), 49 !IOUT1 (out), 50 AVDD@6 (power), 51 !IOUT2 (out), 52 IOUT2 (out), 53 AGND@9 (power), 54 AVDD@7 (power), 55 DACBP, 56 DACREST, 57 NC@3, 58 NC@4, 59 AGND@10 (power), 60 AVDD@8 (power), 61 PLLFILTER, 62 AGND@11 (power), 63 NC@5, 64 DIFF_CLKENABLE, 65 AVDD@9 (power), 66 AGND@12 (power), 67 AGND@13 (power), 68 !REFCLK, 69 REFCLK, 70 S/P_SELECT, 71 MASTER_RESET, 72 DGND@6 (power), 73 DVDD@6 (power), 74 DVDD@7 (power), 75 DGND@7 (power), 76 DGND@8 (power), 77 DGND@9 (power), 78 DGND@10 (power), 79 DVDD@8 (power), 80 DVDD@9 (power)

## AD9859
designator IC?, comment CMOS Direct Digital Synthesizer 400 MSPS, 10-Bit, 1.8 V   Source: www.analog.com/UploadedFiles/Data_Sheets/33830397585263AD9859_0.pdf
MPN: AD9859YSVZ; MF: ALTERA CORPORATION; OC_FARNELL: 1438601; OC_NEWARK: 59K7492
footprint QFP-7X7-48
pins: 1 I/O_UPDATE, 2 DVDD@1, 3 DGND@1, 4 AVDD@1, 5 AGND@1, 6 AVDD@2, 7 AGND@2, 8 !OSC/!REFCLK, 9 OSC/REFCLK, 10 CRYSTAL_OUT (out), 11 CLKMODESELECT, 12 LOOP_FILTER, 13 AVDD@3, 14 AGND@3, 15 AGND@4, 16 AVDD@4, 17 AGND@5, 18 AVDD@5, 19 AVDD@6, 20 !IOUT (out), 21 IOUT (out), 22 AGND@6, 23 DACBP, 24 DAC_RSET, 25 AVDD@7, 26 AGND@7, 27 AVDD@8, 28 AGND@8, 29 AVDD@9, 30 AGND@9, 31 AGND@11, 32 AGND@10, 33 DGND@2, 34 DVDD@2, 35 PWRDWNCTL, 36 RESET, 37 IOSYNC, 38 SDO (out), 39 !CS, 40 SCLK, 41 SDIO, 42 DGND@3, 43 DVDD_I/O, 44 SYNC_IN, 45 SYNC_CLK (out), 46 OSK, 47 DGND@4, 48 DGND@5, EXP AGND/EXP

## AD9901LC
designator IC?, comment Ultrahigh Speed Phase/Frequency Discrimainator Phase-Locked-Loop   Source: 36342005AD9901_b.pdf
MPN: AD9901KPZ; MF: ALTERA CORPORATION; OC_FARNELL: 1676470; OC_NEWARK: 59K7524
footprint LCC20
pins: 2 GND@1, 3 BIAS, 4 GND@2, 6 GND@3, 8 VCOIN, 9 OUT, 10 +VS@1, 12 GND@4, 13 RSET, 14 !OUT, 16 +VS@2, 18 REFIN (out), 19 GND@5, 20 GND@6

## AD9901P
designator IC?, comment Ultrahigh Speed Phase/Frequency Discrimainator Phase-Locked-Loop   Source: 36342005AD9901_b.pdf
MPN: AD9901KQ; MF: ALTERA CORPORATION; OC_FARNELL: unknown; OC_NEWARK: 05F7832
footprint DIL14
pins: 1 GND@1, 2 BIAS, 3 GND@2, 4 GND@3, 5 VCOIN, 6 OUT, 7 +VS@1, 8 GND@4, 9 RSET, 10 !OUT, 11 +VS@2, 12 REFIN (out), 13 GND@5, 14 GND@6

## AD9901PL
designator IC?, comment Ultrahigh Speed Phase/Frequency Discrimainator Phase-Locked-Loop   Source: 36342005AD9901_b.pdf
MPN: AD9901KP; MF: ALTERA CORPORATION; OC_FARNELL: 1424271; OC_NEWARK: 83F3495
footprint PLCC20
pins: 2 GND@1, 3 BIAS, 4 GND@2, 5 GND@3, 6 VCOIN, 7 OUT, 10 +VS@1, 12 GND@4, 13 RSET, 14 !OUT, 16 +VS@2, 18 REFIN (out), 19 GND@5, 20 GND@6

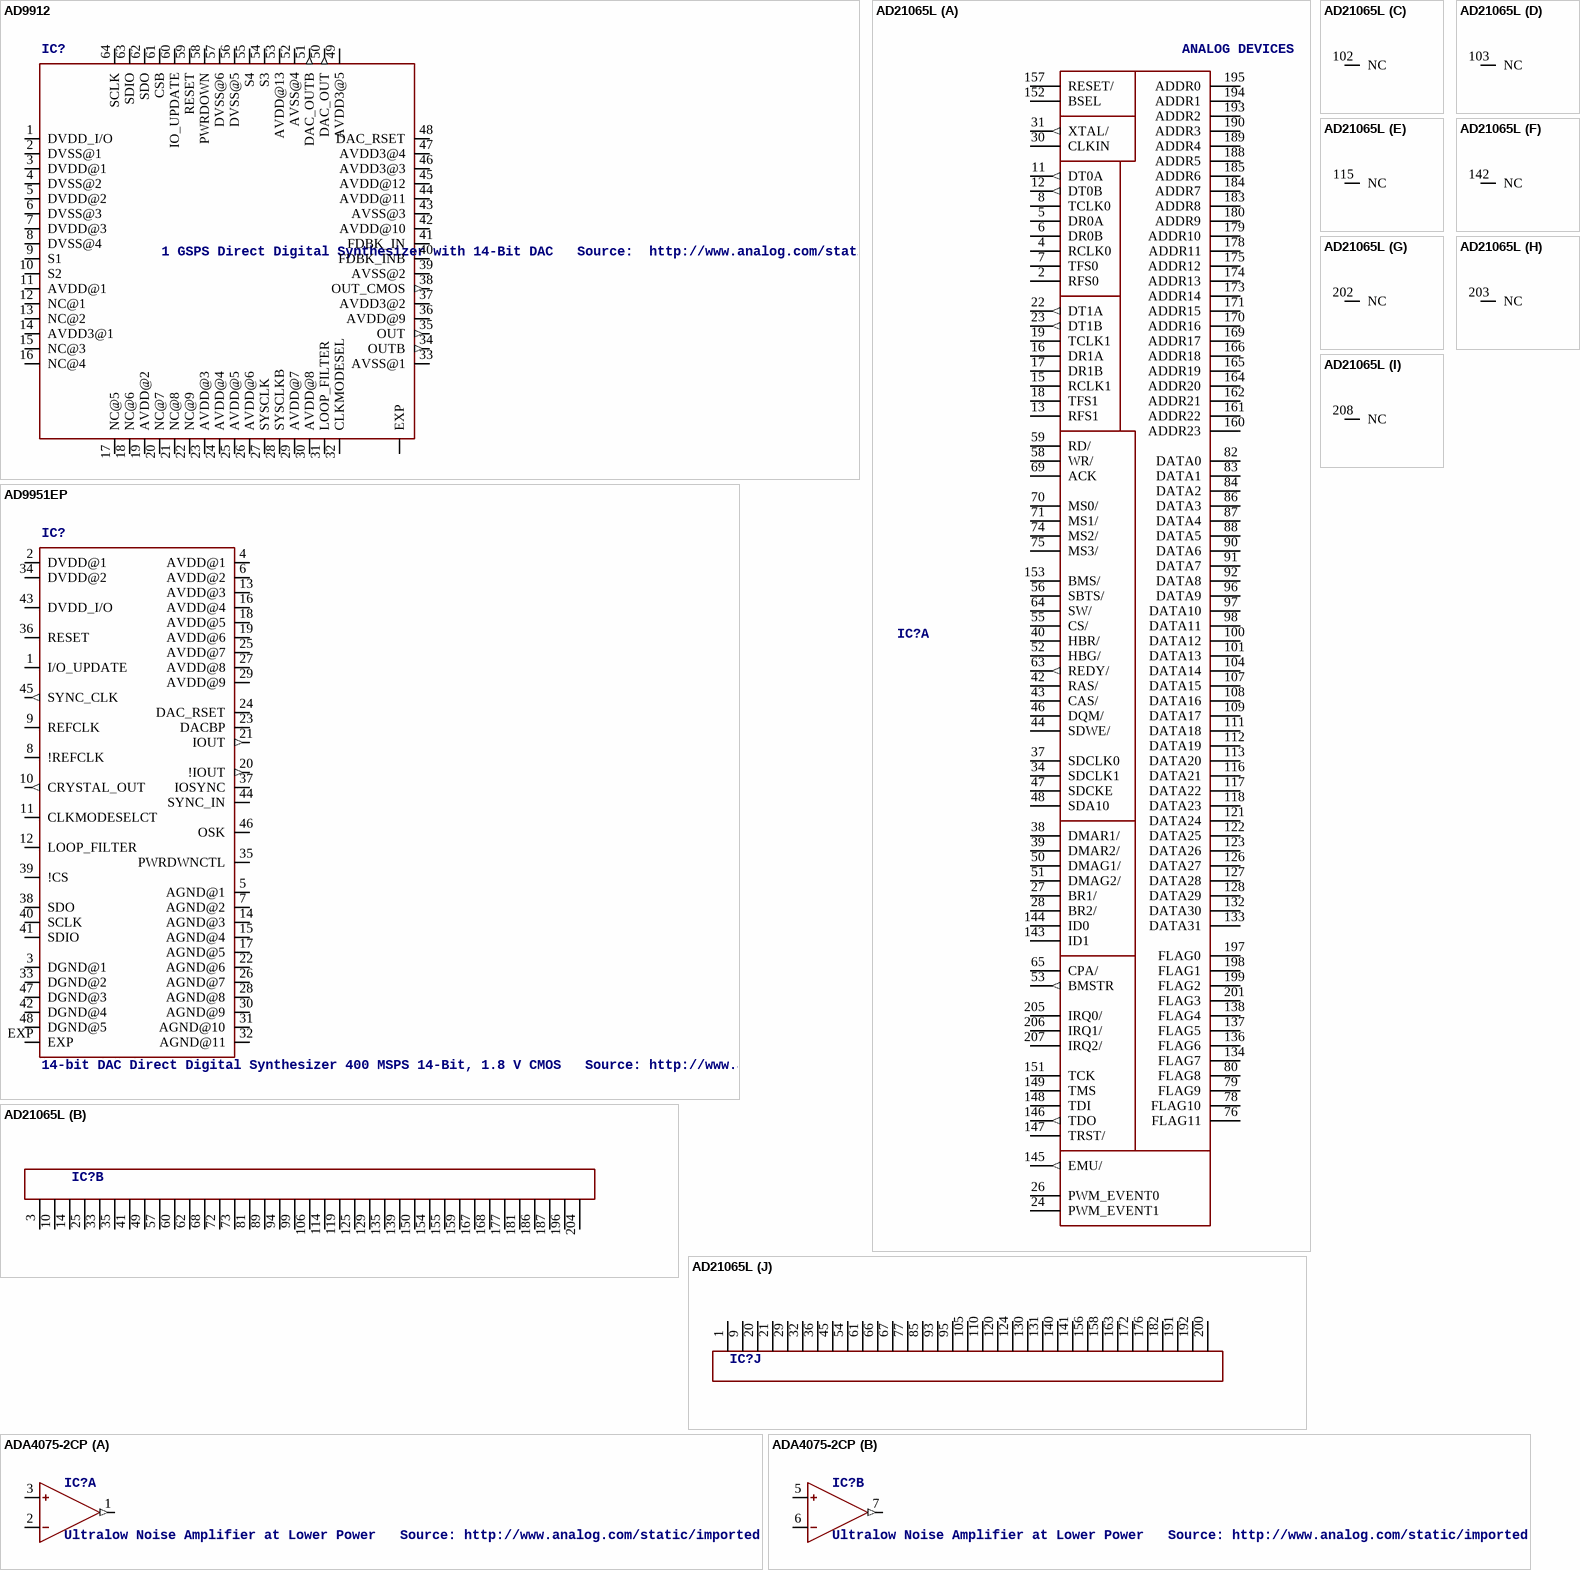
[diagram p18: symbols AD9912 to ADA4075-2CP]

## AD9912
designator IC?, comment 1 GSPS Direct Digital Synthesizer with 14-Bit DAC   Source:  http://www.analog.com/static/imported-files/data_sheets/AD9912.pdf
MPN: AD9912BCPZ; OC_FARNELL: 1542712; OC_NEWARK: 61M3822
footprint LFCSP64
pins: 1 DVDD_I/O (power), 2 DVSS@1 (power), 3 DVDD@1 (power), 4 DVSS@2 (power), 5 DVDD@2 (power), 6 DVSS@3 (power), 7 DVDD@3 (power), 8 DVSS@4 (power), 9 S1, 10 S2, 11 AVDD@1 (power), 12 NC@1, 13 NC@2, 14 AVDD3@1 (power), 15 NC@3, 16 NC@4, 17 NC@5, 18 NC@6, 19 AVDD@2 (power), 20 NC@7, 21 NC@8, 22 NC@9, 23 AVDD@3 (power), 24 AVDD@4 (power), 25 AVDD@5 (power), 26 AVDD@6 (power), 27 SYSCLK, 28 SYSCLKB, 29 AVDD@7 (power), 30 AVDD@8 (power), 31 LOOP_FILTER, 32 CLKMODESEL, 33 AVSS@1 (power), 34 OUTB (out), 35 OUT (out), 36 AVDD@9 (power), 37 AVDD3@2 (power), 38 OUT_CMOS (out), 39 AVSS@2 (power), 40 FDBK_INB, 41 FDBK_IN, 42 AVDD@10 (power), 43 AVSS@3 (power), 44 AVDD@11 (power), 45 AVDD@12 (power), 46 AVDD3@3 (power), 47 AVDD3@4 (power), 48 DAC_RSET, 49 AVDD3@5 (power), 50 DAC_OUT (out), 51 DAC_OUTB (out), 52 AVSS@4 (power), 53 AVDD@13 (power), 54 S3, 55 S4, 56 DVSS@5 (power), 57 DVSS@6 (power), 58 PWRDOWN, 59 RESET, 60 IO_UPDATE, 61 CSB, 62 SDO, 63 SDIO, 64 SCLK, EXP

## AD9951EP
designator IC?, comment 14-bit DAC Direct Digital Synthesizer 400 MSPS 14-Bit, 1.8 V CMOS   Source: http://www.analog.com/static/imported-files/data_sheets/AD9951.pdf
MPN: AD9951YSVZ; OC_FARNELL: 8398445; OC_NEWARK: 19M1019
footprint QFP-7X7-48
pins: 1 I/O_UPDATE, 2 DVDD@1 (power), 3 DGND@1 (power), 4 AVDD@1 (power), 5 AGND@1 (power), 6 AVDD@2 (power), 7 AGND@2 (power), 8 !REFCLK, 9 REFCLK, 10 CRYSTAL_OUT (out), 11 CLKMODESELCT, 12 LOOP_FILTER, 13 AVDD@3 (power), 14 AGND@3 (power), 15 AGND@4 (power), 16 AVDD@4 (power), 17 AGND@5 (power), 18 AVDD@5 (power), 19 AVDD@6 (power), 20 !IOUT (out), 21 IOUT (out), 22 AGND@6 (power), 23 DACBP, 24 DAC_RSET, 25 AVDD@7 (power), 26 AGND@7 (power), 27 AVDD@8 (power), 28 AGND@8 (power), 29 AVDD@9 (power), 30 AGND@9 (power), 31 AGND@10 (power), 32 AGND@11 (power), 33 DGND@2 (power), 34 DVDD@2 (power), 35 PWRDWNCTL, 36 RESET, 37 IOSYNC, 38 SDO, 39 !CS, 40 SCLK, 41 SDIO, 42 DGND@4 (power), 43 DVDD_I/O (power), 44 SYNC_IN, 45 SYNC_CLK (out), 46 OSK, 47 DGND@3 (power), 48 DGND@5 (power), EXP

## AD21065L
designator IC?, comment ANALOG DEVICES
OC_FARNELL: unknown; OC_NEWARK: unknown
footprint PQFP208
part A pins: 2 RFS0, 4 RCLK0, 5 DR0A, 6 DR0B, 7 TFS0, 8 TCLK0, 11 DT0A (out), 12 DT0B (out), 13 RFS1, 15 RCLK1, 16 DR1A, 17 DR1B, 18 TFS1, 19 TCLK1, 22 DT1A (out), 23 DT1B (out), 24 PWM_EVENT1, 26 PWM_EVENT0, 27 BR1/, 28 BR2/, 30 CLKIN, 31 XTAL/ (out), 34 SDCLK1 (hiz), 37 SDCLK0 (hiz), 38 DMAR1/, 39 DMAR2/, 40 HBR/, 42 RAS/ (hiz), 43 CAS/ (hiz), 44 SDWE/ (hiz), 46 DQM/ (hiz), 47 SDCKE (hiz), 48 SDA10 (hiz), 50 DMAG1/ (hiz), 51 DMAG2/ (hiz), 52 HBG/, 53 BMSTR (out), 55 CS/, 56 SBTS/, 58 WR/ (hiz), 59 RD/ (hiz), 63 REDY/ (out), 64 SW/ (hiz), 65 CPA/, 69 ACK, 70 MS0/ (hiz), 71 MS1/ (hiz), 74 MS2/ (hiz), 75 MS3/ (hiz), 76 FLAG11, 78 FLAG10, 79 FLAG9, 80 FLAG8, 82 DATA0, 83 DATA1, 84 DATA2, 86 DATA3, 87 DATA4, 88 DATA5, 90 DATA6, 91 DATA7, 92 DATA8, 96 DATA9, 97 DATA10, 98 DATA11, 100 DATA12, 101 DATA13, 104 DATA14, 107 DATA15, 108 DATA16, 109 DATA17, 111 DATA18, 112 DATA19, 113 DATA20, 116 DATA21, 117 DATA22, 118 DATA23, 121 DATA24, 122 DATA25, 123 DATA26, 126 DATA27, 127 DATA28, 128 DATA29, 132 DATA30, 133 DATA31, 134 FLAG7, 136 FLAG6, 137 FLAG5, 138 FLAG4, 143 ID1, 144 ID0, 145 EMU/ (out), 146 TDO (out), 147 TRST/, 148 TDI, 149 TMS, 151 TCK, 152 BSEL, 153 BMS/, 157 RESET/, 160 ADDR23, 161 ADDR22, 162 ADDR21, 164 ADDR20, 165 ADDR19, 166 ADDR18, 169 ADDR17, 170 ADDR16, 171 ADDR15, 173 ADDR14, 174 ADDR13, 175 ADDR12, 178 ADDR11, 179 ADDR10, 180 ADDR9, 183 ADDR8, 184 ADDR7, 185 ADDR6, 188 ADDR5, 189 ADDR4, 190 ADDR3, 193 ADDR2, 194 ADDR1, 195 ADDR0, 197 FLAG0, 198 FLAG1, 199 FLAG2, 201 FLAG3, 205 IRQ0/, 206 IRQ1/, 207 IRQ2/
part B pins: 3 GND (power), 10 GND@1 (power), 14 GND@2 (power), 25 GND@3 (power), 33 GND@4 (power), 35 GND@5 (power), 41 GND@6 (power), 49 GND@7 (power), 57 GND@8 (power), 60 GND@9 (power), 62 GND@10 (power), 68 GND@11 (power), 72 GND@12 (power), 73 GND@13 (power), 81 GND@14 (power), 89 GND@15 (power), 94 GND@16 (power), 99 GND@17 (power), 106 GND@18 (power), 114 GND@19 (power), 119 GND@20 (power), 125 GND@21 (power), 129 GND@22 (power), 135 GND@23 (power), 139 GND@24 (power), 150 GND@25 (power), 154 GND@26 (power), 155 GND@27 (power), 159 GND@28 (power), 167 GND@29 (power), 168 GND@30 (power), 177 GND@31 (power), 181 GND@32 (power), 186 GND@33 (power), 187 GND@34 (power), 196 GND@35 (power), 204 GND@36 (power)
part C pins: 102 NC
part D pins: 103 NC
part E pins: 115 NC
part F pins: 142 NC
part G pins: 202 NC
part H pins: 203 NC
part I pins: 208 NC
part J pins: 1 VCC (power), 9 VCC@1 (power), 20 VCC@2 (power), 21 VCC@3 (power), 29 VCC@4 (power), 32 VCC@5 (power), 36 VCC@6 (power), 45 VCC@7 (power), 54 VCC@8 (power), 61 VCC@9 (power), 66 VCC@10 (power), 67 VCC@11 (power), 77 VCC@12 (power), 85 VCC@13 (power), 93 VCC@14 (power), 95 VCC@15 (power), 105 VCC@16 (power), 110 VCC@17 (power), 120 VCC@18 (power), 124 VCC@19 (power), 130 VCC@20 (power), 131 VCC@21 (power), 140 VCC@22 (power), 141 VCC@23 (power), 156 VCC@24 (power), 158 VCC@25 (power), 163 VCC@26 (power), 172 VCC@27 (power), 176 VCC@28 (power), 182 VCC@29 (power), 191 VCC@30 (power), 192 VCC@31 (power), 200 VCC@32 (power)

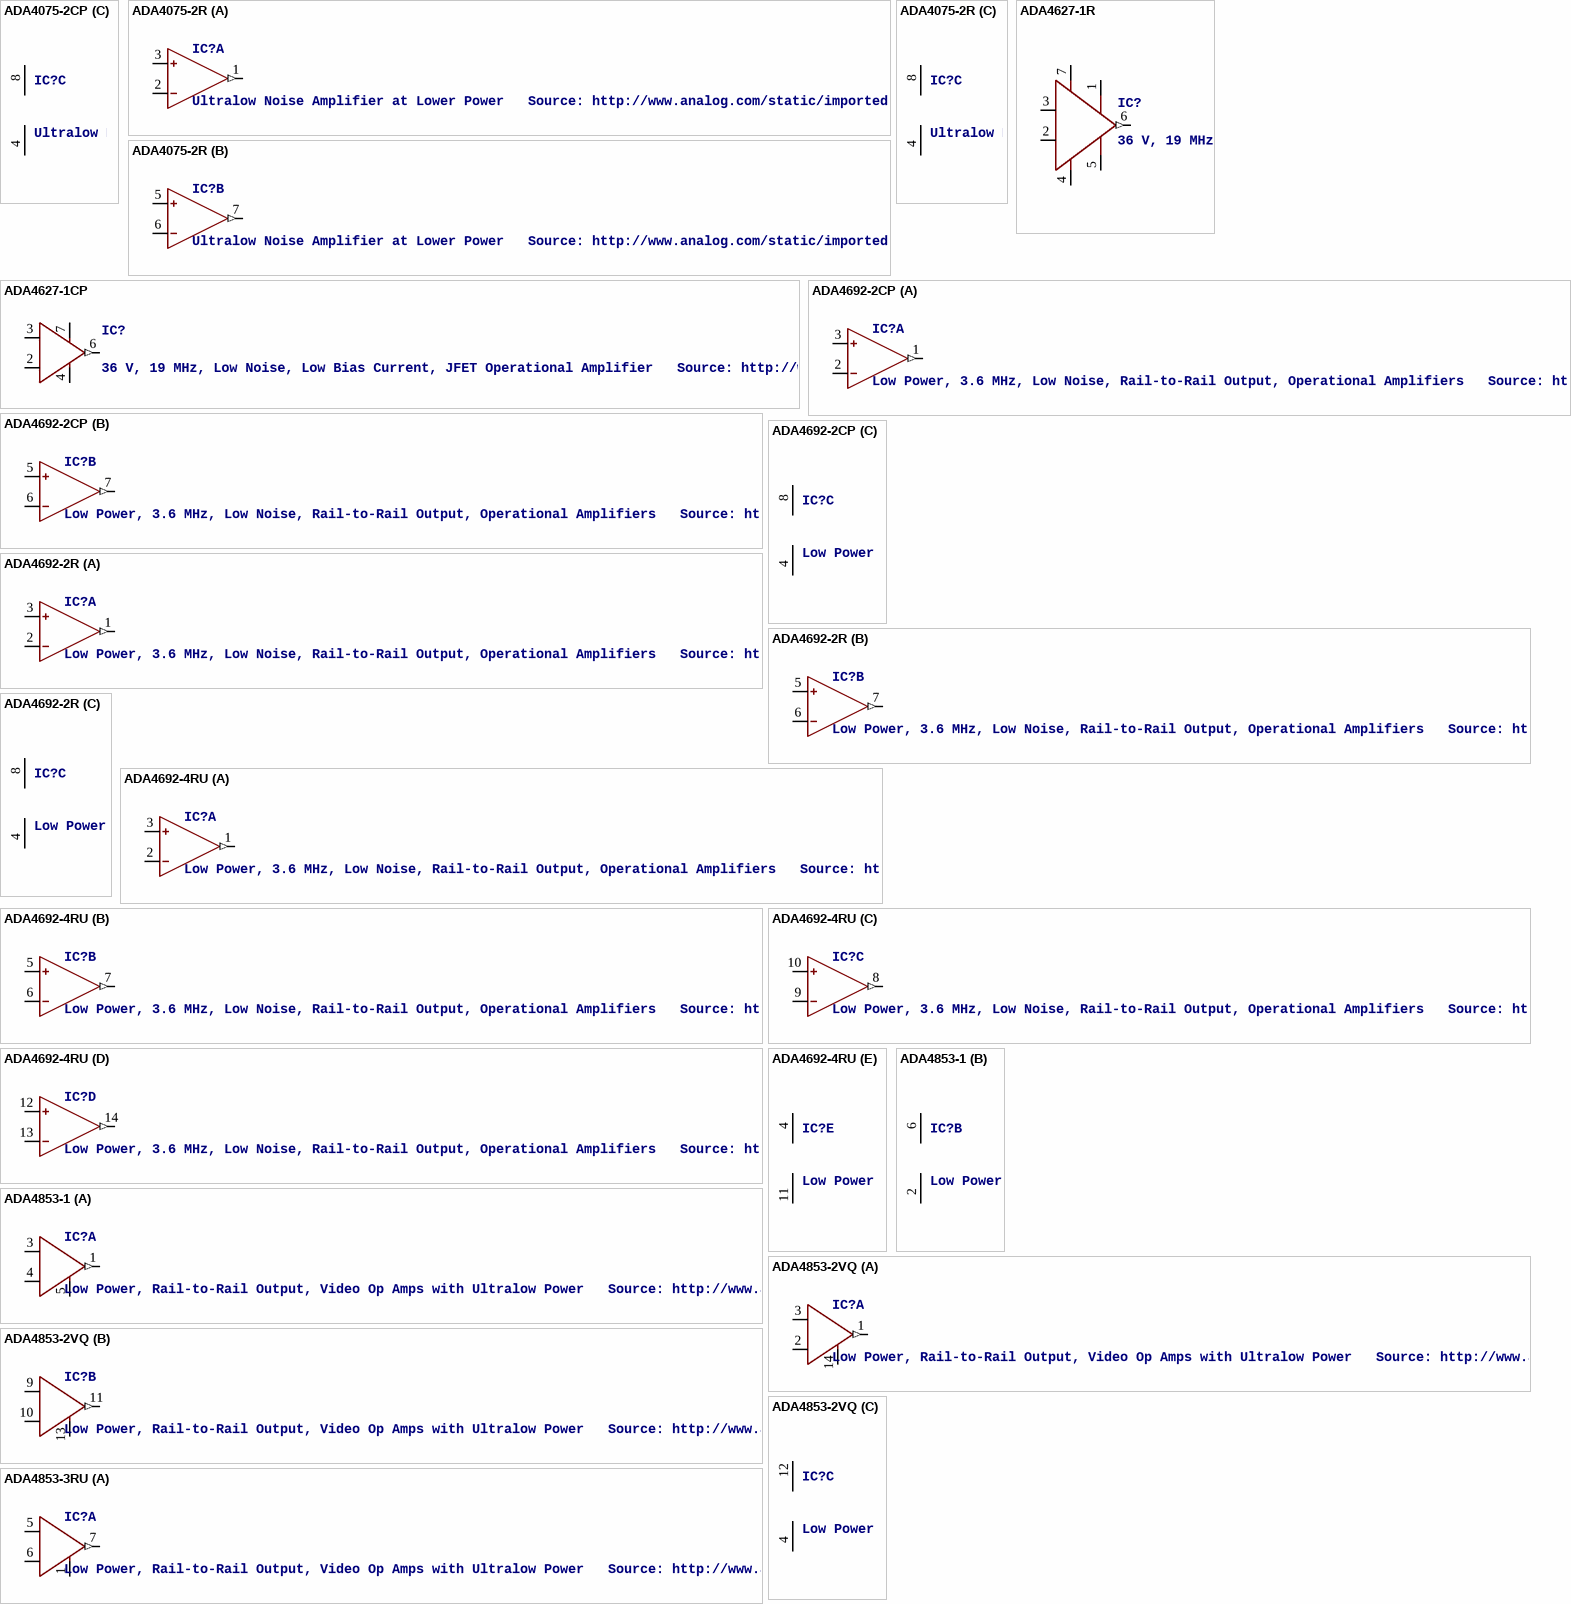
[diagram p19: symbols ADA4075-2CP to ADA4853-3RU]

## ADA4075-2CP
designator IC?, comment Ultralow Noise Amplifier at Lower Power   Source: http://www.analog.com/static/imported-files/data_sheets/ADA4075-2.pdf
MPN: ADA4075-2ACPZ-R7; OC_FARNELL: unknown; OC_NEWARK: 26R2389
footprint LFCSP8_CP
part A pins: 1 OUT (out), 2 IN-, 3 IN+
part B pins: 5 IN+, 6 IN-, 7 OUT (out)
part C pins: 4 V- (power), 8 V+ (power)

## ADA4075-2R
designator IC?, comment Ultralow Noise Amplifier at Lower Power   Source: http://www.analog.com/static/imported-files/data_sheets/ADA4075-2.pdf
MPN: ADA4075-2ARZ; OC_FARNELL: 1701254; OC_NEWARK: 19P8164
footprint SO8
part A pins: 1 OUT (out), 2 IN-, 3 IN+
part B pins: 5 IN+, 6 IN-, 7 OUT (out)
part C pins: 4 V- (power), 8 V+ (power)

## ADA4627-1CP
designator IC?, comment 36 V, 19 MHz, Low Noise, Low Bias Current, JFET Operational Amplifier   Source: http://www.analog.com/static/imported-files/data_sheets/ADA4627-1.pdf
MPN: ADA4627-1ACPZ-R2; OC_FARNELL: 1827379; OC_NEWARK: 80R8148
footprint LFCSP8
pins: 2 IN-, 3 IN+, 4 -VS, 6 OUT (out), 7 +VS

## ADA4627-1R
designator IC?, comment 36 V, 19 MHz, Low Noise, Low Bias Current, JFET Operational Amplifier   Source: http://www.analog.com/static/imported-files/data_sheets/ADA4627-1.pdf
MPN: ADA4627-1ARZ; OC_FARNELL: 1827378; OC_NEWARK: 26R2398
footprint SO8
pins: 1 OFF@1, 2 IN-, 3 IN+, 4 -VS, 5 OFF@2, 6 OUT (out), 7 +VS

## ADA4692-2CP
designator IC?, comment Low Power, 3.6 MHz, Low Noise, Rail-to-Rail Output, Operational Amplifiers   Source: http://www.analog.com/static/imported-files/data_sheets/ADA4691-2_4692-2_4692-4.pdf
OC_FARNELL: 1827383; OC_NEWARK: unknown
footprint LFCSP8_CP
part A pins: 1 OUT (out), 2 IN-, 3 IN+
part B pins: 5 IN+, 6 IN-, 7 OUT (out)
part C pins: 4 V- (power), 8 V+ (power)

## ADA4692-2R
designator IC?, comment Low Power, 3.6 MHz, Low Noise, Rail-to-Rail Output, Operational Amplifiers   Source: http://www.analog.com/static/imported-files/data_sheets/ADA4691-2_4692-2_4692-4.pdf
MPN: ADA4692-2ARZ; OC_FARNELL: 1760810; OC_NEWARK: 05R6523
footprint SO8
part A pins: 1 OUT (out), 2 IN-, 3 IN+
part B pins: 5 IN+, 6 IN-, 7 OUT (out)
part C pins: 4 V- (power), 8 V+ (power)

## ADA4692-4RU
designator IC?, comment Low Power, 3.6 MHz, Low Noise, Rail-to-Rail Output, Operational Amplifiers   Source: http://www.analog.com/static/imported-files/data_sheets/ADA4691-2_4692-2_4692-4.pdf
MPN: ADA4692-4ARUZ; OC_FARNELL: 1827393; OC_NEWARK: 80R8154
footprint TSSOP14
part A pins: 1 OUT (out), 2 IN-, 3 IN+
part B pins: 5 IN+, 6 IN-, 7 OUT (out)
part C pins: 8 OUT (out), 9 IN-, 10 IN+
part D pins: 12 IN+, 13 IN-, 14 OUT (out)
part E pins: 4 V+ (power), 11 V- (power)

## ADA4853-1
designator IC?, comment Low Power, Rail-to-Rail Output, Video Op Amps with Ultralow Power   Source: http://www.analog.com/static/imported-files/data_sheets/ADA4853-1_4853-2_4853-3.pdf
OC_FARNELL: unknown; OC_NEWARK: unknown
footprint SC70-6
part A pins: 1 OUT (out), 3 IN+, 4 IN-, 5 !POWERDOWN
part B pins: 2 V- (power), 6 V+ (power)

## ADA4853-2VQ
designator IC?, comment Low Power, Rail-to-Rail Output, Video Op Amps with Ultralow Power   Source: http://www.analog.com/static/imported-files/data_sheets/ADA4853-1_4853-2_4853-3.pdf
OC_FARNELL: unknown; OC_NEWARK: unknown
footprint LFCSP16
part A pins: 1 OUT (out), 2 IN-, 3 IN+, 14 !POWERDOWN
part B pins: 9 IN+, 10 IN-, 11 OUT (out), 13 !POWERDOWN
part C pins: 4 V- (power), 12 V+ (power)

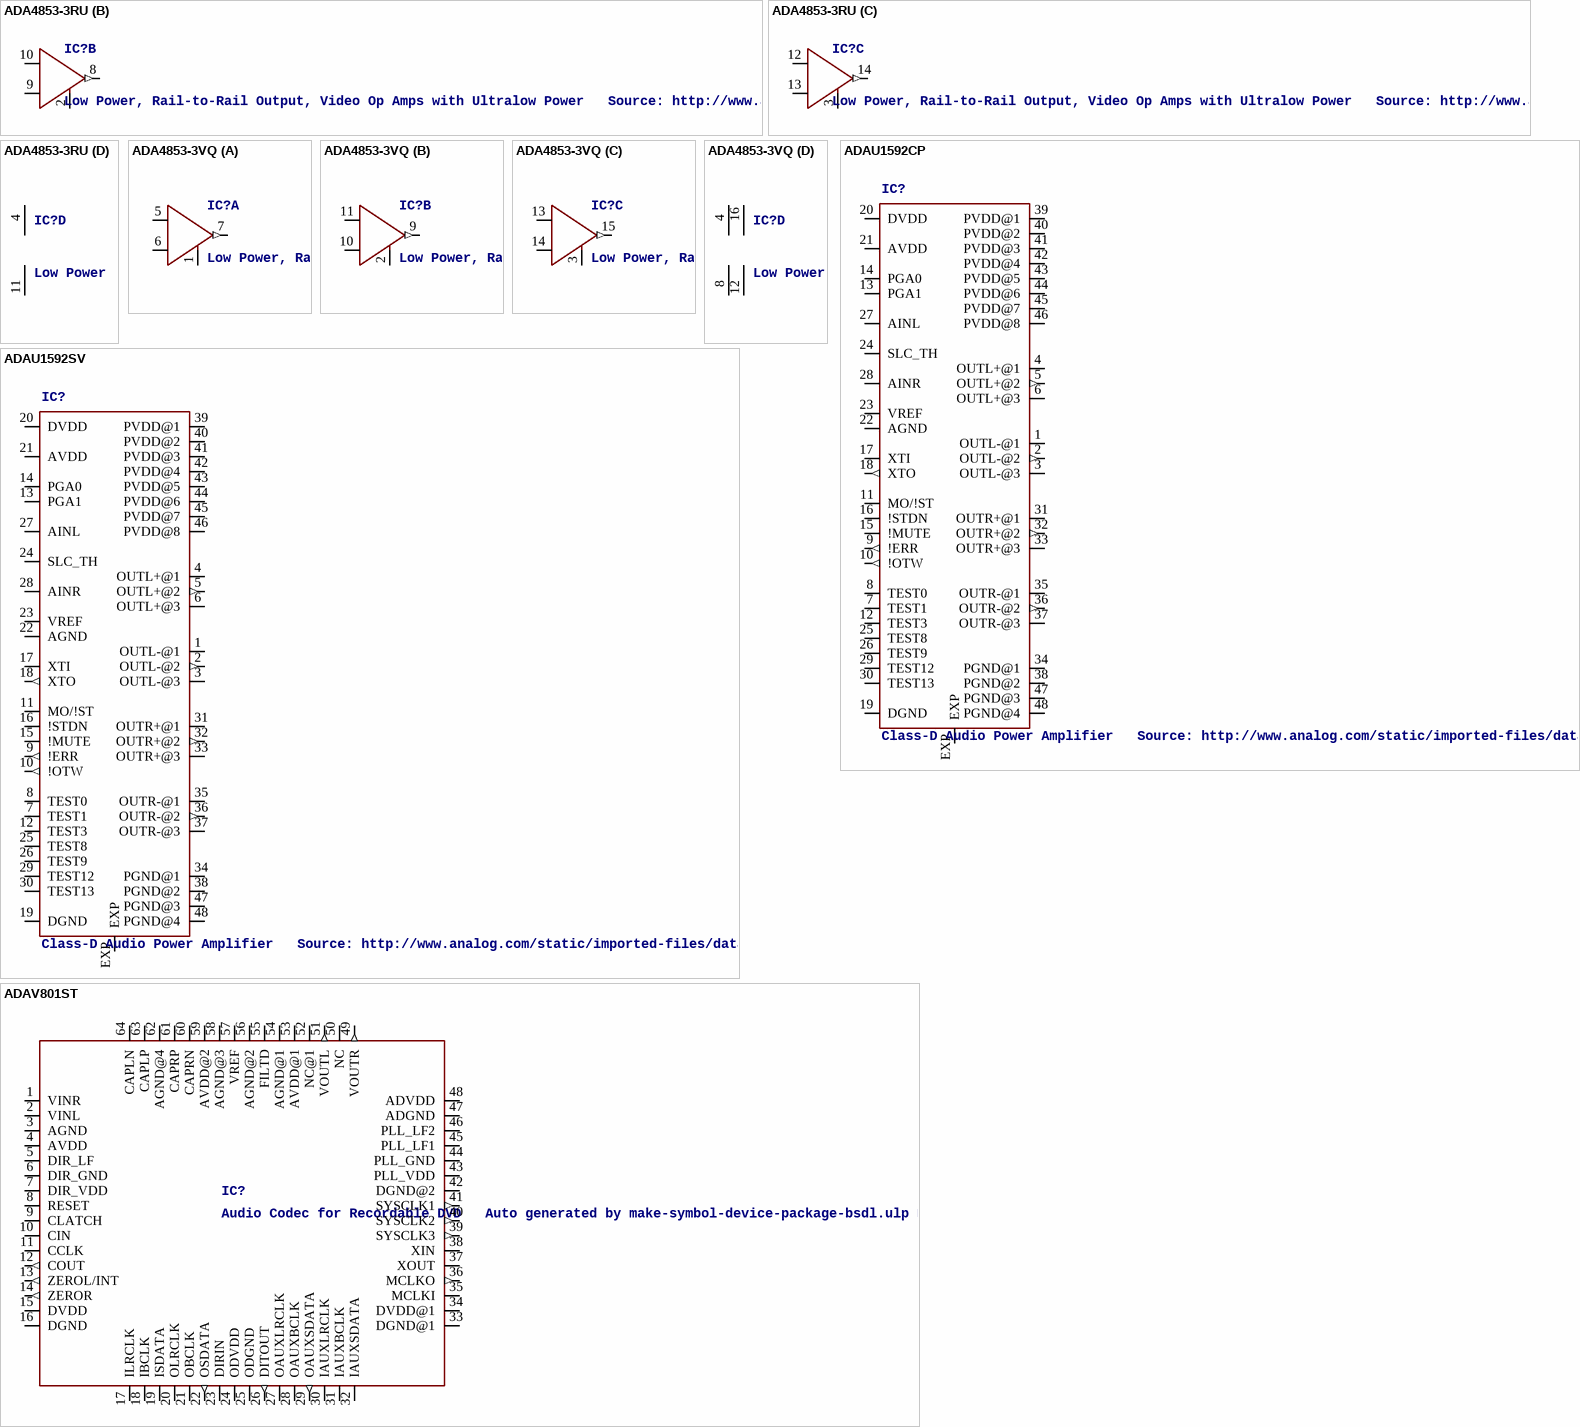
[diagram p20: symbols ADA4853-3RU to ADAV801ST]

## ADA4853-3RU
designator IC?, comment Low Power, Rail-to-Rail Output, Video Op Amps with Ultralow Power   Source: http://www.analog.com/static/imported-files/data_sheets/ADA4853-1_4853-2_4853-3.pdf
MPN: ADA4853-3YRUZ; OC_FARNELL: 1498692; OC_NEWARK: 15P0326
footprint TSSOP14
part A pins: 1 !POWERDOWN, 5 IN+, 6 IN-, 7 OUT (out)
part B pins: 2 !POWERDOWN, 8 OUT (out), 9 IN-, 10 IN+
part C pins: 3 !POWERDOWN, 12 IN+, 13 IN-, 14 OUT (out)
part D pins: 4 V+ (power), 11 V- (power)

## ADA4853-3VQ
designator IC?, comment Low Power, Rail-to-Rail Output, Video Op Amps with Ultralow Power   Source: http://www.analog.com/static/imported-files/data_sheets/ADA4853-1_4853-2_4853-3.pdf
OC_FARNELL: unknown; OC_NEWARK: unknown
footprint LFCSP16
part A pins: 1 !POWERDOWN, 5 IN+, 6 IN-, 7 OUT (out)
part B pins: 2 !POWERDOWN, 9 OUT (out), 10 IN-, 11 IN+
part C pins: 3 !POWERDOWN, 13 IN+, 14 IN-, 15 OUT (out)
part D pins: 4 V+@1 (power), 8 V-@1 (power), 12 V-@2 (power), 16 V+@2 (power)

## ADAU1592CP
designator IC?, comment Class-D Audio Power Amplifier   Source: http://www.analog.com/static/imported-files/data_sheets/ADAU1592.pdf
MPN: ADAU1592ACPZ; OC_FARNELL: 1498683; OC_NEWARK: 50M0756
footprint LFCSP48
pins: 1 OUTL-@1, 2 OUTL-@2 (out), 3 OUTL-@3, 4 OUTL+@1, 5 OUTL+@2 (out), 6 OUTL+@3, 7 TEST1, 8 TEST0, 9 !ERR (out), 10 !OTW (out), 11 MO/!ST, 12 TEST3, 13 PGA1, 14 PGA0, 15 !MUTE, 16 !STDN, 17 XTI, 18 XTO (out), 19 DGND, 20 DVDD, 21 AVDD, 22 AGND, 23 VREF, 24 SLC_TH, 25 TEST8, 26 TEST9, 27 AINL, 28 AINR, 29 TEST12, 30 TEST13, 31 OUTR+@1, 32 OUTR+@2 (out), 33 OUTR+@3, 34 PGND@1, 35 OUTR-@1, 36 OUTR-@2 (out), 37 OUTR-@3, 38 PGND@2, 39 PVDD@1, 40 PVDD@2, 41 PVDD@3, 42 PVDD@4, 43 PVDD@5, 44 PVDD@6, 45 PVDD@7, 46 PVDD@8, 47 PGND@3, 48 PGND@4, EXP

## ADAU1592SV
designator IC?, comment Class-D Audio Power Amplifier   Source: http://www.analog.com/static/imported-files/data_sheets/ADAU1592.pdf
OC_FARNELL: 1498683; OC_NEWARK: unknown
footprint QFP-7X7-48
pins: 1 OUTL-@1, 2 OUTL-@2 (out), 3 OUTL-@3, 4 OUTL+@1, 5 OUTL+@2 (out), 6 OUTL+@3, 7 TEST1, 8 TEST0, 9 !ERR (out), 10 !OTW (out), 11 MO/!ST, 12 TEST3, 13 PGA1, 14 PGA0, 15 !MUTE, 16 !STDN, 17 XTI, 18 XTO (out), 19 DGND, 20 DVDD, 21 AVDD, 22 AGND, 23 VREF, 24 SLC_TH, 25 TEST8, 26 TEST9, 27 AINL, 28 AINR, 29 TEST12, 30 TEST13, 31 OUTR+@1, 32 OUTR+@2 (out), 33 OUTR+@3, 34 PGND@1, 35 OUTR-@1, 36 OUTR-@2 (out), 37 OUTR-@3, 38 PGND@2, 39 PVDD@1, 40 PVDD@2, 41 PVDD@3, 42 PVDD@4, 43 PVDD@5, 44 PVDD@6, 45 PVDD@7, 46 PVDD@8, 47 PGND@3, 48 PGND@4, EXP

## ADAV801ST
designator IC?, comment Audio Codec for Recordable DVD   Auto generated by make-symbol-device-package-bsdl.ulp Rev. 33 Source: http://www.analog.com/static/imported-files/data_sheets/ADAV801.pdf
MPN: ADAV801ASTZ; OC_FARNELL: 1438741; OC_NEWARK: 26R5500
footprint LQFP-ST-64-2
pins: 1 VINR, 2 VINL, 3 AGND (power), 4 AVDD (power), 5 DIR_LF, 6 DIR_GND, 7 DIR_VDD, 8 RESET, 9 CLATCH, 10 CIN, 11 CCLK, 12 COUT (out), 13 ZEROL/INT (out), 14 ZEROR (out), 15 DVDD (power), 16 DGND (power), 17 ILRCLK, 18 IBCLK, 19 ISDATA, 20 OLRCLK, 21 OBCLK, 22 OSDATA (out), 23 DIRIN, 24 ODVDD, 25 ODGND, 26 DITOUT (out), 27 OAUXLRCLK, 28 OAUXBCLK, 29 OAUXSDATA (out), 30 IAUXLRCLK, 31 IAUXBCLK, 32 IAUXSDATA, 33 DGND@1 (power), 34 DVDD@1 (power), 35 MCLKI, 36 MCLKO (out), 37 XOUT, 38 XIN, 39 SYSCLK3 (out), 40 SYSCLK2 (out), 41 SYSCLK1 (out), 42 DGND@2 (power), 43 PLL_VDD, 44 PLL_GND, 45 PLL_LF1, 46 PLL_LF2, 47 ADGND (power), 48 ADVDD (power), 49 VOUTR (out), 50 NC, 51 VOUTL (out), 52 NC@1, 53 AVDD@1 (power), 54 AGND@1 (power), 55 FILTD, 56 AGND@2 (power), 57 VREF, 58 AGND@3 (power), 59 AVDD@2 (power), 60 CAPRN, 61 CAPRP, 62 AGND@4 (power), 63 CAPLP, 64 CAPLN

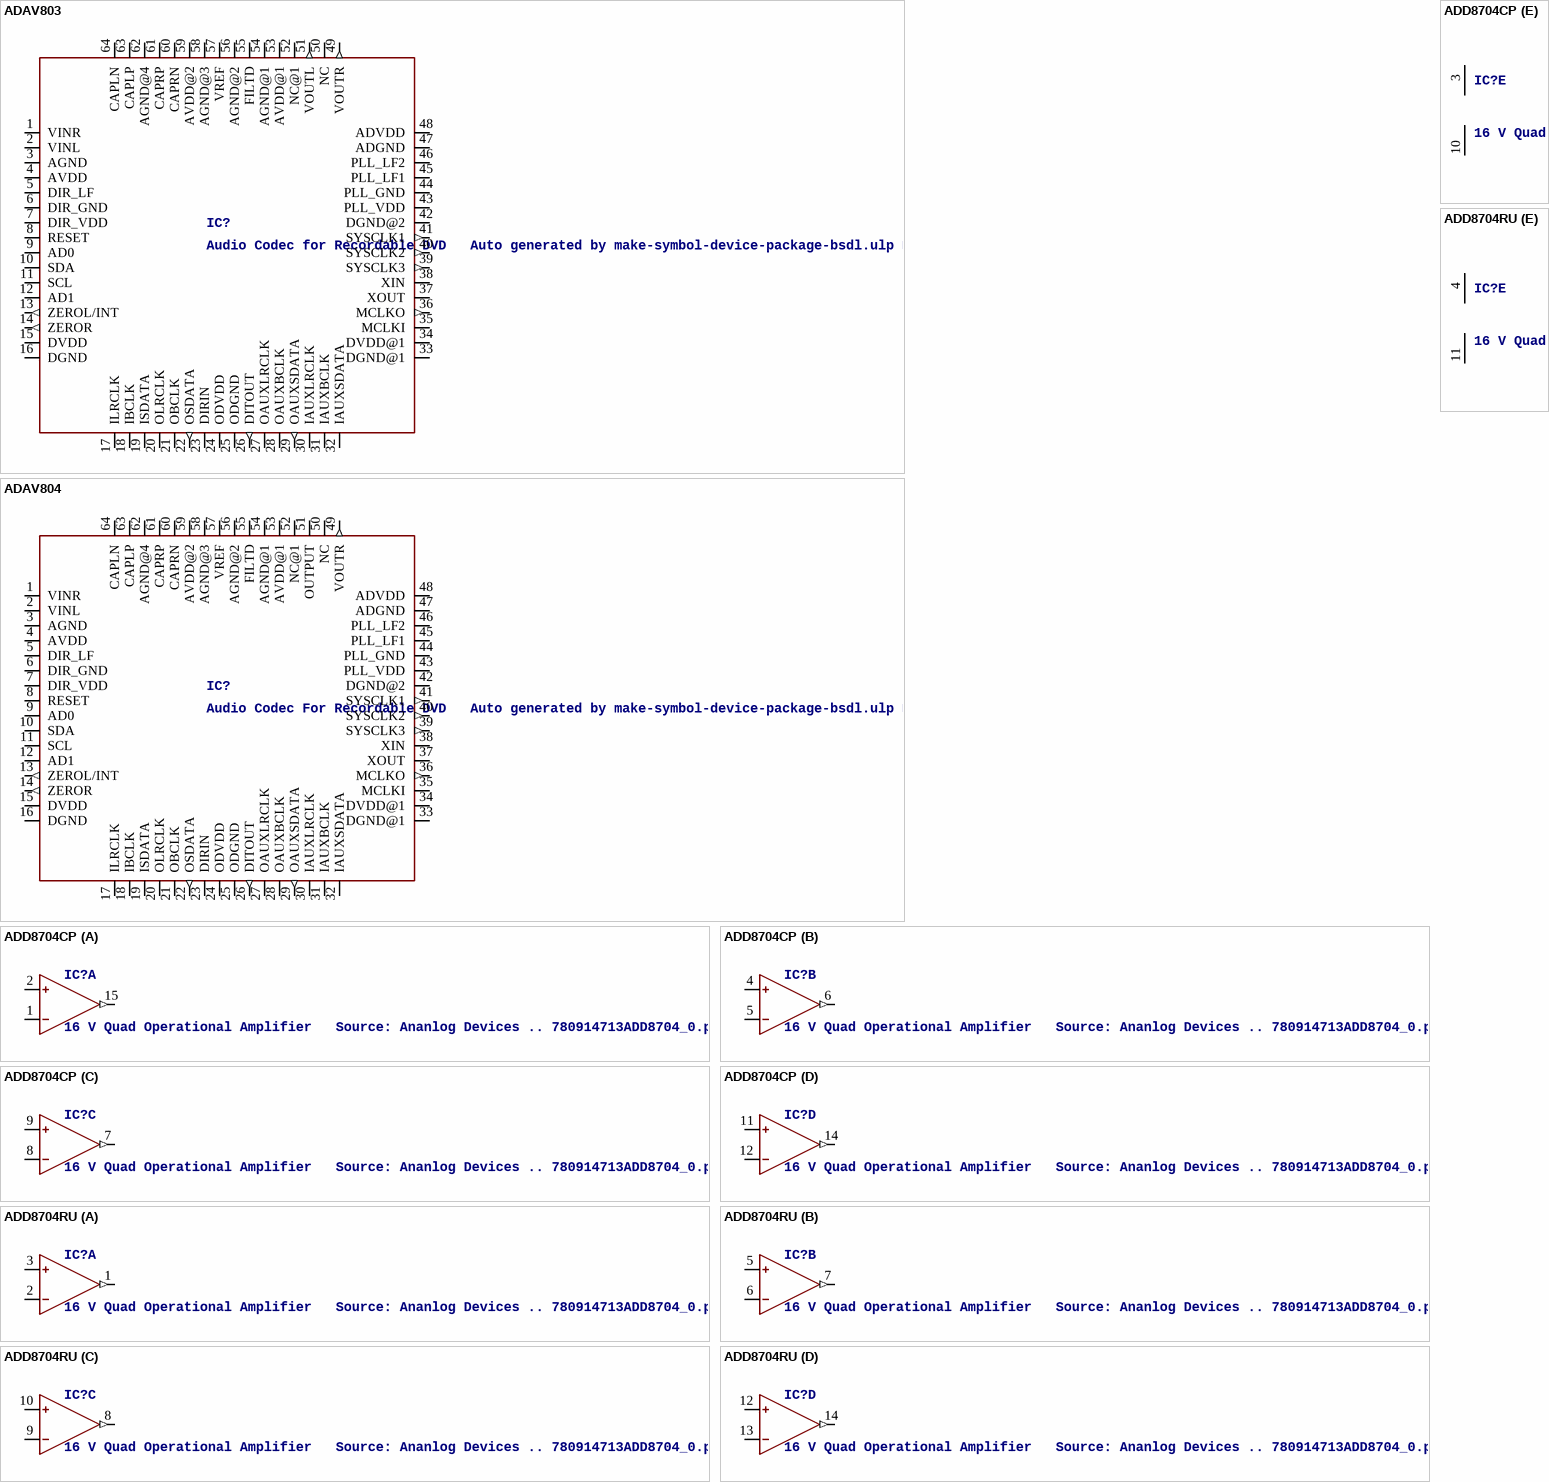
[diagram p21: symbols ADAV803 to ADD8704RU]

## ADAV803
designator IC?, comment Audio Codec for Recordable DVD   Auto generated by make-symbol-device-package-bsdl.ulp Rev. 33 Source: http://www.analog.com/static/imported-files/data_sheets/ADAV803.pdf
MPN: ADAV803ASTZ-REEL; MF: ALTERA CORPORATION; OC_FARNELL: unknown; OC_NEWARK: 59K0877
footprint LQFP-ST-64-2
pins: 1 VINR, 2 VINL, 3 AGND (power), 4 AVDD (power), 5 DIR_LF, 6 DIR_GND, 7 DIR_VDD, 8 RESET, 9 AD0, 10 SDA, 11 SCL, 12 AD1, 13 ZEROL/INT (out), 14 ZEROR (out), 15 DVDD (power), 16 DGND (power), 17 ILRCLK, 18 IBCLK, 19 ISDATA, 20 OLRCLK, 21 OBCLK, 22 OSDATA (out), 23 DIRIN, 24 ODVDD (power), 25 ODGND (power), 26 DITOUT (out), 27 OAUXLRCLK, 28 OAUXBCLK, 29 OAUXSDATA (out), 30 IAUXLRCLK, 31 IAUXBCLK, 32 IAUXSDATA, 33 DGND@1 (power), 34 DVDD@1 (power), 35 MCLKI, 36 MCLKO (out), 37 XOUT, 38 XIN, 39 SYSCLK3 (out), 40 SYSCLK2 (out), 41 SYSCLK1 (out), 42 DGND@2 (power), 43 PLL_VDD, 44 PLL_GND, 45 PLL_LF1, 46 PLL_LF2, 47 ADGND (power), 48 ADVDD (power), 49 VOUTR (out), 50 NC, 51 VOUTL (out), 52 NC@1, 53 AVDD@1 (power), 54 AGND@1 (power), 55 FILTD, 56 AGND@2 (power), 57 VREF, 58 AGND@3 (power), 59 AVDD@2 (power), 60 CAPRN, 61 CAPRP, 62 AGND@4 (power), 63 CAPLP, 64 CAPLN

## ADAV804
designator IC?, comment Audio Codec For Recordable DVD   Auto generated by make-symbol-device-package-bsdl.ulp Rev. 33 Source: http://www.analog.com/static/imported-files/data_sheets/ADAV804.pdf
OC_FARNELL: unknown; OC_NEWARK: unknown
footprint LQFP-ST-64-2
pins: 1 VINR, 2 VINL, 3 AGND (power), 4 AVDD (power), 5 DIR_LF, 6 DIR_GND, 7 DIR_VDD, 8 RESET, 9 AD0, 10 SDA, 11 SCL, 12 AD1, 13 ZEROL/INT (out), 14 ZEROR (out), 15 DVDD (power), 16 DGND (power), 17 ILRCLK, 18 IBCLK, 19 ISDATA, 20 OLRCLK, 21 OBCLK, 22 OSDATA (out), 23 DIRIN, 24 ODVDD (power), 25 ODGND (power), 26 DITOUT (out), 27 OAUXLRCLK, 28 OAUXBCLK, 29 OAUXSDATA (out), 30 IAUXLRCLK, 31 IAUXBCLK, 32 IAUXSDATA, 33 DGND@1 (power), 34 DVDD@1 (power), 35 MCLKI, 36 MCLKO (out), 37 XOUT, 38 XIN, 39 SYSCLK3 (out), 40 SYSCLK2 (out), 41 SYSCLK1 (out), 42 DGND@2, 43 PLL_VDD, 44 PLL_GND, 45 PLL_LF1, 46 PLL_LF2, 47 ADGND (power), 48 ADVDD (power), 49 VOUTR (out), 50 NC, 51 OUTPUT, 52 NC@1, 53 AVDD@1 (power), 54 AGND@1 (power), 55 FILTD, 56 AGND@2 (power), 57 VREF, 58 AGND@3 (power), 59 AVDD@2, 60 CAPRN, 61 CAPRP, 62 AGND@4 (power), 63 CAPLP, 64 CAPLN

## ADD8704CP
designator IC?, comment 16 V Quad Operational Amplifier   Source: Ananlog Devices .. 780914713ADD8704_0.pdf
MPN: ADD8704ACPZ-REEL7; MF: ALTERA CORPORATION; OC_FARNELL: unknown; OC_NEWARK: 59K0961
footprint LFCSP16
part A pins: 1 IN-, 2 IN+, 15 OUT (out)
part B pins: 4 IN+, 5 IN-, 6 OUT (out)
part C pins: 7 OUT (out), 8 IN-, 9 IN+
part D pins: 11 IN+, 12 IN-, 14 OUT (out)
part E pins: 3 V+ (power), 10 V- (power)

## ADD8704RU
designator IC?, comment 16 V Quad Operational Amplifier   Source: Ananlog Devices .. 780914713ADD8704_0.pdf
MPN: ADD8704ARUZ-REEL; MF: ALTERA CORPORATION; OC_FARNELL: unknown; OC_NEWARK: 59K0964
footprint TSSOP14
part A pins: 1 OUT (out), 2 IN-, 3 IN+
part B pins: 5 IN+, 6 IN-, 7 OUT (out)
part C pins: 8 OUT (out), 9 IN-, 10 IN+
part D pins: 12 IN+, 13 IN-, 14 OUT (out)
part E pins: 4 V+ (power), 11 V- (power)

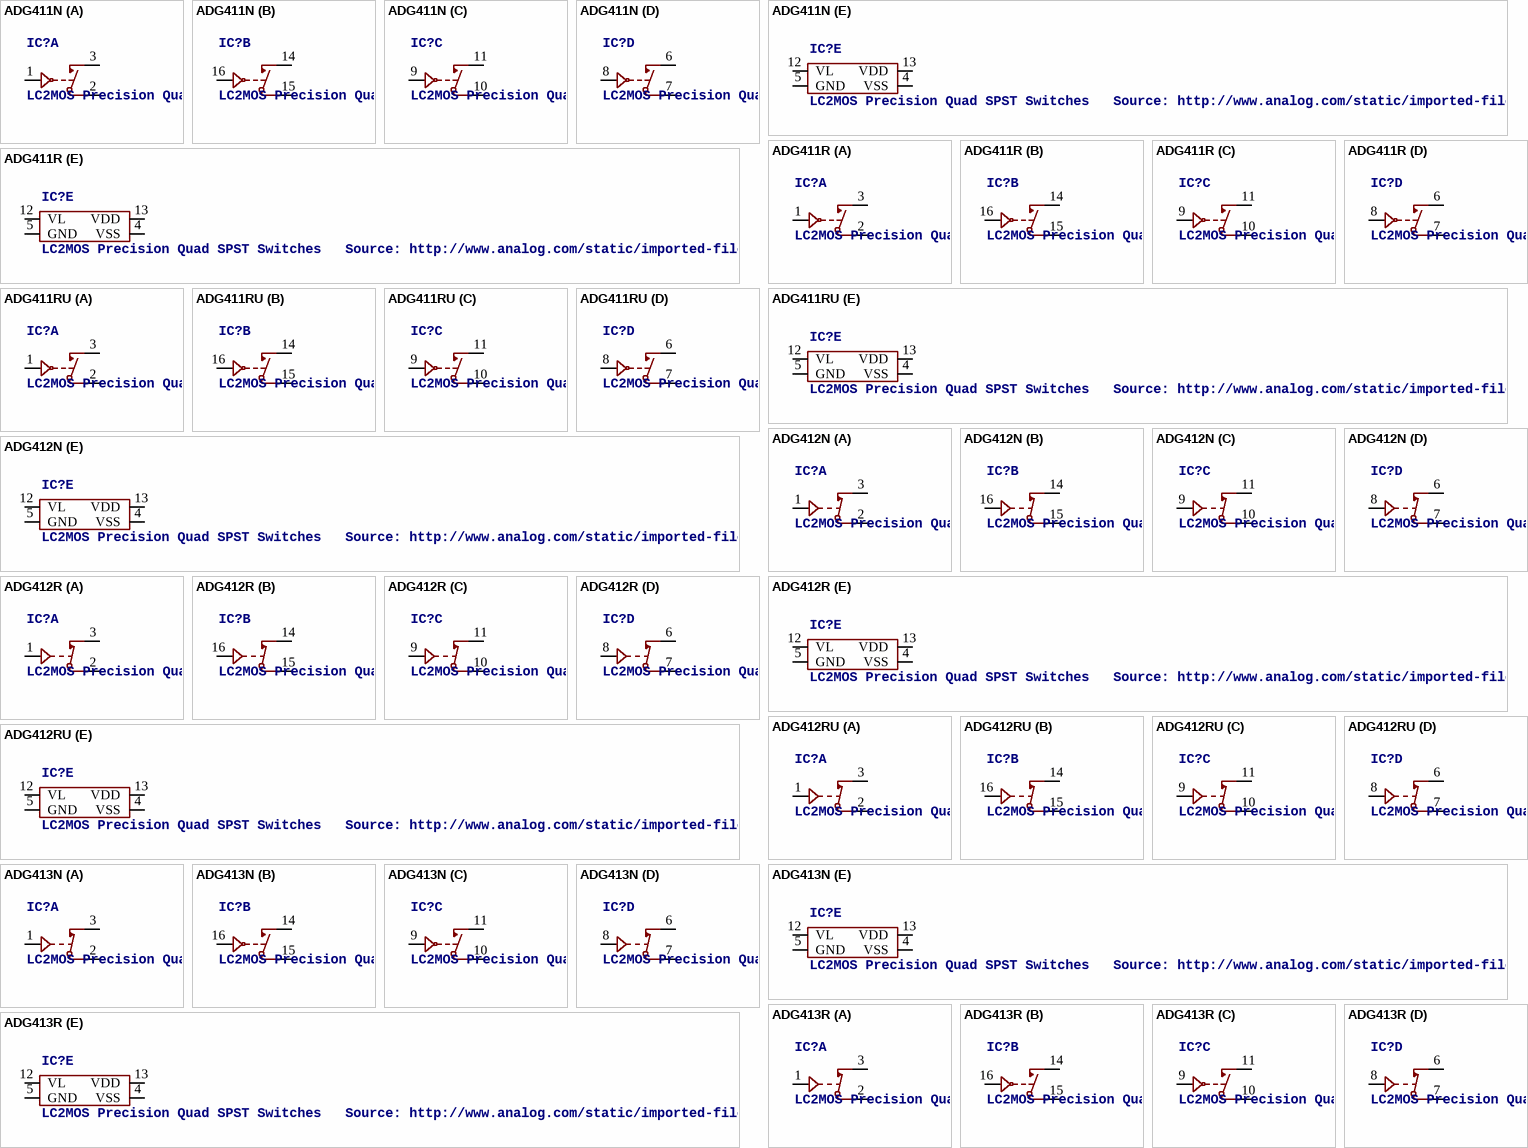
[diagram p22: symbols ADG411N to ADG413R]

## ADG411N
designator IC?, comment LC2MOS Precision Quad SPST Switches   Source: http://www.analog.com/static/imported-files/data_sheets/ADG411_412_413.pdf
MPN: ADG411BN; MF: ALTERA CORPORATION; OC_FARNELL: 1424317; OC_NEWARK: 05F6198
footprint DIL16
part A pins: 1 IN, 2 D, 3 S
part B pins: 14 S, 15 D, 16 IN
part C pins: 9 IN, 10 D, 11 S
part D pins: 6 S, 7 D, 8 IN
part E pins: 4 VSS (power), 5 GND (power), 12 VL (power), 13 VDD (power)

## ADG411R
designator IC?, comment LC2MOS Precision Quad SPST Switches   Source: http://www.analog.com/static/imported-files/data_sheets/ADG411_412_413.pdf
MPN: ADG411BRZ; OC_FARNELL: 1424319; OC_NEWARK: 19M8649
footprint SOIC16N
part A pins: 1 IN, 2 D, 3 S
part B pins: 14 S, 15 D, 16 IN
part C pins: 9 IN, 10 D, 11 S
part D pins: 6 S, 7 D, 8 IN
part E pins: 4 VSS (power), 5 GND (power), 12 VL (power), 13 VDD (power)

## ADG411RU
designator IC?, comment LC2MOS Precision Quad SPST Switches   Source: http://www.analog.com/static/imported-files/data_sheets/ADG411_412_413.pdf
MPN: ADG411BRUZ; MF: ALTERA CORPORATION; OC_FARNELL: 1424318; OC_NEWARK: 59K1243
footprint TSSOP16
part A pins: 1 IN, 2 D, 3 S
part B pins: 14 S, 15 D, 16 IN
part C pins: 9 IN, 10 D, 11 S
part D pins: 6 S, 7 D, 8 IN
part E pins: 4 VSS (power), 5 GND (power), 12 VL (power), 13 VDD (power)

## ADG412N
designator IC?, comment LC2MOS Precision Quad SPST Switches   Source: http://www.analog.com/static/imported-files/data_sheets/ADG411_412_413.pdf
MPN: ADG412TQ; MF: ALTERA CORPORATION; OC_FARNELL: 1438704; OC_NEWARK: 09B7025
footprint DIL16
part A pins: 1 IN, 2 D, 3 S
part B pins: 14 S, 15 D, 16 IN
part C pins: 9 IN, 10 D, 11 S
part D pins: 6 S, 7 D, 8 IN
part E pins: 4 VSS (power), 5 GND (power), 12 VL (power), 13 VDD (power)

## ADG412R
designator IC?, comment LC2MOS Precision Quad SPST Switches   Source: http://www.analog.com/static/imported-files/data_sheets/ADG411_412_413.pdf
MPN: ADG412BRZ; MF: ALTERA CORPORATION; OC_FARNELL: 1661021; OC_NEWARK: 59K1252
footprint SOIC16N
part A pins: 1 IN, 2 D, 3 S
part B pins: 14 S, 15 D, 16 IN
part C pins: 9 IN, 10 D, 11 S
part D pins: 6 S, 7 D, 8 IN
part E pins: 4 VSS (power), 5 GND (power), 12 VL (power), 13 VDD (power)

## ADG412RU
designator IC?, comment LC2MOS Precision Quad SPST Switches   Source: http://www.analog.com/static/imported-files/data_sheets/ADG411_412_413.pdf
MPN: ADG412BRU-REEL7; MF: ALTERA CORPORATION; OC_FARNELL: unknown; OC_NEWARK: 59K1251
footprint TSSOP16
part A pins: 1 IN, 2 D, 3 S
part B pins: 14 S, 15 D, 16 IN
part C pins: 9 IN, 10 D, 11 S
part D pins: 6 S, 7 D, 8 IN
part E pins: 4 VSS (power), 5 GND (power), 12 VL (power), 13 VDD (power)

## ADG413N
designator IC?, comment LC2MOS Precision Quad SPST Switches   Source: http://www.analog.com/static/imported-files/data_sheets/ADG411_412_413.pdf
MPN: ADG413BNZ; OC_FARNELL: 1079411; OC_NEWARK: 31M3784
footprint DIL16
part A pins: 1 IN, 2 D, 3 S
part B pins: 14 S, 15 D, 16 IN
part C pins: 9 IN, 10 D, 11 S
part D pins: 6 S, 7 D, 8 IN
part E pins: 4 VSS (power), 5 GND (power), 12 VL (power), 13 VDD (power)

## ADG413R
designator IC?, comment LC2MOS Precision Quad SPST Switches   Source: http://www.analog.com/static/imported-files/data_sheets/ADG411_412_413.pdf
MPN: ADG413BRZ; OC_FARNELL: 1465179; OC_NEWARK: 19M8650
footprint SOIC16N
part A pins: 1 IN, 2 D, 3 S
part B pins: 14 S, 15 D, 16 IN
part C pins: 9 IN, 10 D, 11 S
part D pins: 6 S, 7 D, 8 IN
part E pins: 4 VSS (power), 5 GND (power), 12 VL (power), 13 VDD (power)

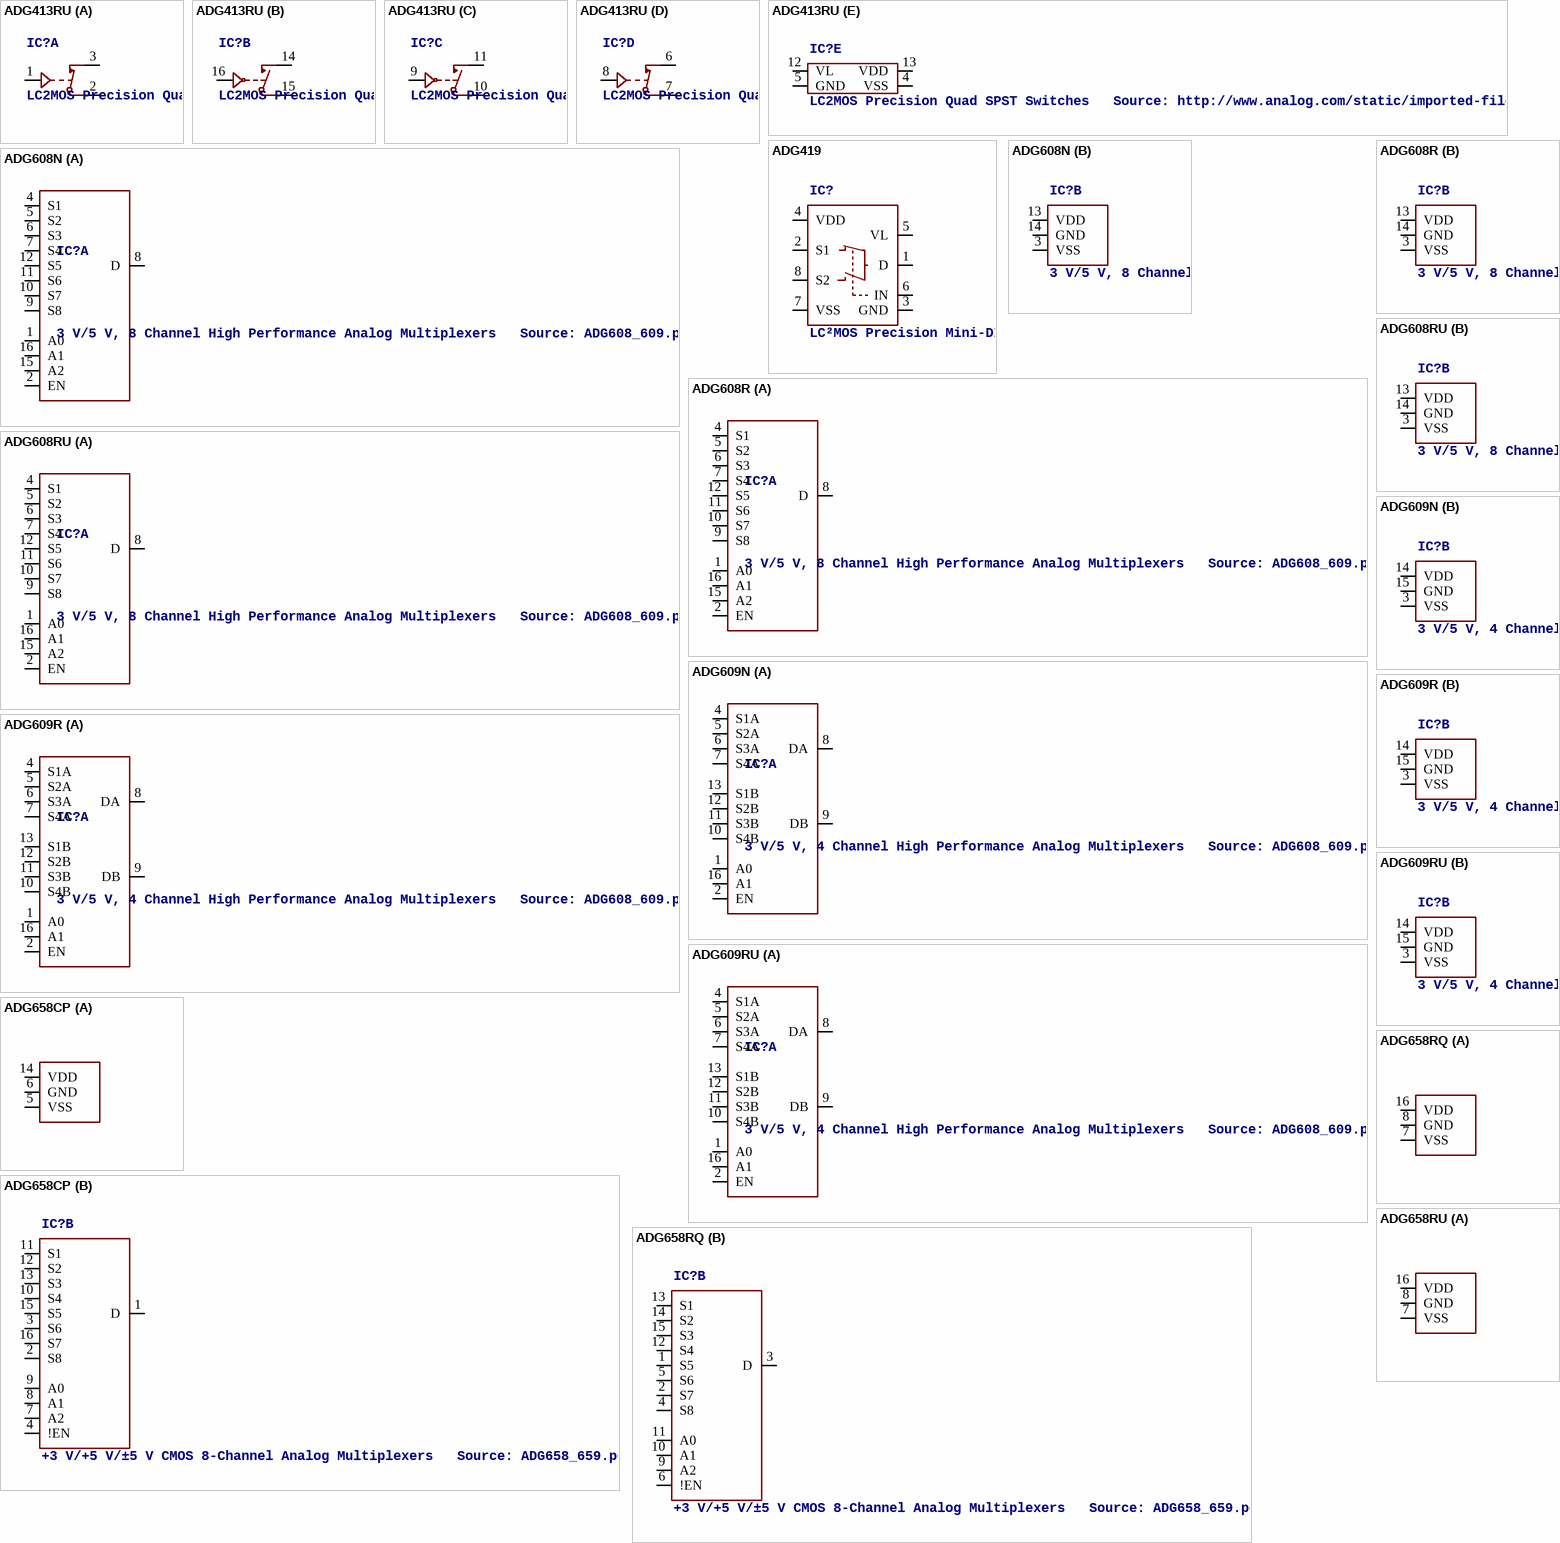
[diagram p23: symbols ADG413RU to ADG658RU]

## ADG413RU
designator IC?, comment LC2MOS Precision Quad SPST Switches   Source: http://www.analog.com/static/imported-files/data_sheets/ADG411_412_413.pdf
OC_FARNELL: 1319241; OC_NEWARK: unknown
footprint TSSOP16
part A pins: 1 IN, 2 D, 3 S
part B pins: 14 S, 15 D, 16 IN
part C pins: 9 IN, 10 D, 11 S
part D pins: 6 S, 7 D, 8 IN
part E pins: 4 VSS (power), 5 GND (power), 12 VL (power), 13 VDD (power)

## ADG419
designator IC?, comment LC²MOS Precision Mini-DIP Analog switch   Source: http://www.analog.com/UploadedFiles/Data_Sheets/ADG419.pdf
MPN: ADG419BN; MF: ALTERA CORPORATION; OC_FARNELL: 1438705; OC_NEWARK: 16F6524
footprint DIL08
pins: 1 D, 2 S1, 3 GND (power), 4 VDD (power), 5 VL (power), 6 IN, 7 VSS (power), 8 S2

## ADG608N
designator IC?, comment 3 V/5 V, 8 Channel High Performance Analog Multiplexers   Source: ADG608_609.pdf
MPN: ADG608BNZ; OC_FARNELL: 1438944; OC_NEWARK: 15P0383
footprint DIL16
part A pins: 1 A0, 2 EN, 4 S1, 5 S2, 6 S3, 7 S4, 8 D, 9 S8, 10 S7, 11 S6, 12 S5, 15 A2, 16 A1
part B pins: 3 VSS (power), 13 VDD (power), 14 GND (power)

## ADG608R
designator IC?, comment 3 V/5 V, 8 Channel High Performance Analog Multiplexers   Source: ADG608_609.pdf
MPN: ADG608BR; MF: ALTERA CORPORATION; OC_FARNELL: 1438944; OC_NEWARK: 09B7118
footprint SOIC16N
part A pins: 1 A0, 2 EN, 4 S1, 5 S2, 6 S3, 7 S4, 8 D, 9 S8, 10 S7, 11 S6, 12 S5, 15 A2, 16 A1
part B pins: 3 VSS (power), 13 VDD (power), 14 GND (power)

## ADG608RU
designator IC?, comment 3 V/5 V, 8 Channel High Performance Analog Multiplexers   Source: ADG608_609.pdf
MPN: ADG608BRU; MF: ALTERA CORPORATION; OC_FARNELL: 1465227; OC_NEWARK: 16F6552
footprint TSSOP16
part A pins: 1 A0, 2 EN, 4 S1, 5 S2, 6 S3, 7 S4, 8 D, 9 S8, 10 S7, 11 S6, 12 S5, 15 A2, 16 A1
part B pins: 3 VSS (power), 13 VDD (power), 14 GND (power)

## ADG609N
designator IC?, comment 3 V/5 V, 4 Channel High Performance Analog Multiplexers   Source: ADG608_609.pdf
MPN: ADG609BN; MF: ALTERA CORPORATION; OC_FARNELL: 1438945; OC_NEWARK: 66F3790
footprint DIL16
part A pins: 1 A0, 2 EN, 4 S1A, 5 S2A, 6 S3A, 7 S4A, 8 DA, 9 DB, 10 S4B, 11 S3B, 12 S2B, 13 S1B, 16 A1
part B pins: 3 VSS (power), 14 VDD (power), 15 GND (power)

## ADG609R
designator IC?, comment 3 V/5 V, 4 Channel High Performance Analog Multiplexers   Source: ADG608_609.pdf
MPN: ADG609BRZ; OC_FARNELL: 1438945; OC_NEWARK: 15P0386
footprint SOIC16N
part A pins: 1 A0, 2 EN, 4 S1A, 5 S2A, 6 S3A, 7 S4A, 8 DA, 9 DB, 10 S4B, 11 S3B, 12 S2B, 13 S1B, 16 A1
part B pins: 3 VSS (power), 14 VDD (power), 15 GND (power)

## ADG609RU
designator IC?, comment 3 V/5 V, 4 Channel High Performance Analog Multiplexers   Source: ADG608_609.pdf
MPN: ADG609BRUZ; OC_FARNELL: 1438945; OC_NEWARK: 19M8664
footprint TSSOP16
part A pins: 1 A0, 2 EN, 4 S1A, 5 S2A, 6 S3A, 7 S4A, 8 DA, 9 DB, 10 S4B, 11 S3B, 12 S2B, 13 S1B, 16 A1
part B pins: 3 VSS (power), 14 VDD (power), 15 GND (power)

## ADG658CP
designator IC?, comment +3 V/+5 V/±5 V CMOS 8-Channel Analog Multiplexers   Source: ADG658_659.pdf
MPN: ADG658YCP; MF: ALTERA CORPORATION; OC_FARNELL: unknown; OC_NEWARK: 87H9636
footprint LFCSP16
part A pins: 5 VSS (power), 6 GND (power), 14 VDD (power)
part B pins: 1 D, 2 S8, 3 S6, 4 !EN, 7 A2, 8 A1, 9 A0, 10 S4, 11 S1, 12 S2, 13 S3, 15 S5, 16 S7

## ADG658RQ
designator IC?, comment +3 V/+5 V/±5 V CMOS 8-Channel Analog Multiplexers   Source: ADG658_659.pdf
MPN: ADG658YRQ-REEL7; MF: ALTERA CORPORATION; OC_FARNELL: 1438947; OC_NEWARK: 59K1455
footprint QSOP16
part A pins: 7 VSS (power), 8 GND (power), 16 VDD (power)
part B pins: 1 S5, 2 S7, 3 D, 4 S8, 5 S6, 6 !EN, 9 A2, 10 A1, 11 A0, 12 S4, 13 S1, 14 S2, 15 S3

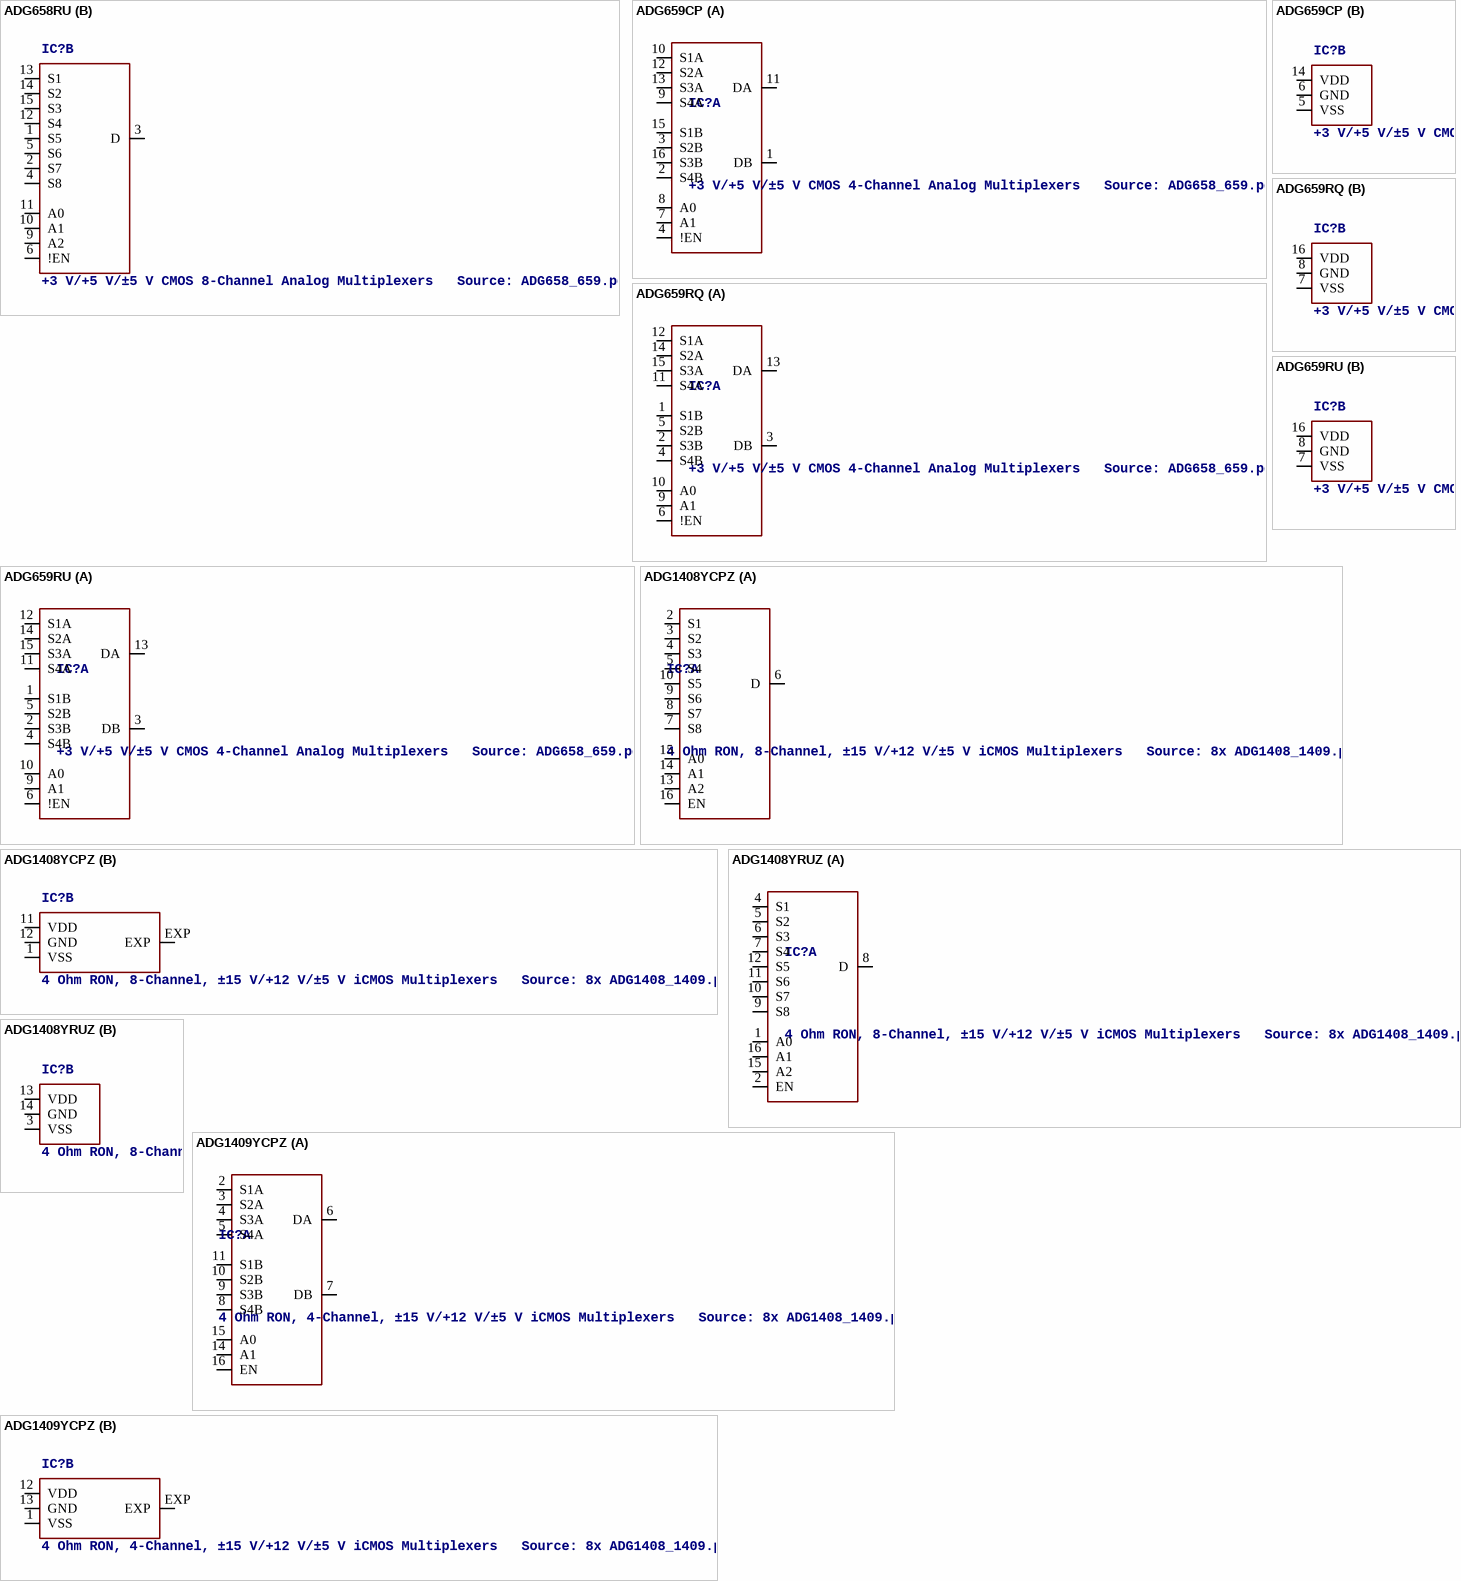
[diagram p24: symbols ADG658RU to ADG1409YCPZ]

## ADG658RU
designator IC?, comment +3 V/+5 V/±5 V CMOS 8-Channel Analog Multiplexers   Source: ADG658_659.pdf
MPN: ADG658YRUZ; OC_FARNELL: 1438947; OC_NEWARK: 19M8665
footprint TSSOP16
part A pins: 7 VSS (power), 8 GND (power), 16 VDD (power)
part B pins: 1 S5, 2 S7, 3 D, 4 S8, 5 S6, 6 !EN, 9 A2, 10 A1, 11 A0, 12 S4, 13 S1, 14 S2, 15 S3

## ADG659CP
designator IC?, comment +3 V/+5 V/±5 V CMOS 4-Channel Analog Multiplexers   Source: ADG658_659.pdf
MPN: ADG659YCPZ; OC_FARNELL: unknown; OC_NEWARK: 74R5857
footprint LFCSP16
part A pins: 1 DB, 2 S4B, 3 S2B, 4 !EN, 7 A1, 8 A0, 9 S4A, 10 S1A, 11 DA, 12 S2A, 13 S3A, 15 S1B, 16 S3B
part B pins: 5 VSS (power), 6 GND (power), 14 VDD (power)

## ADG659RQ
designator IC?, comment +3 V/+5 V/±5 V CMOS 4-Channel Analog Multiplexers   Source: ADG658_659.pdf
MPN: ADG659YRQ; MF: ALTERA CORPORATION; OC_FARNELL: 1465237; OC_NEWARK: 59K1460
footprint QSOP16
part A pins: 1 S1B, 2 S3B, 3 DB, 4 S4B, 5 S2B, 6 !EN, 9 A1, 10 A0, 11 S4A, 12 S1A, 13 DA, 14 S2A, 15 S3A
part B pins: 7 VSS (power), 8 GND (power), 16 VDD (power)

## ADG659RU
designator IC?, comment +3 V/+5 V/±5 V CMOS 4-Channel Analog Multiplexers   Source: ADG658_659.pdf
MPN: ADG659YRU-REEL7; MF: ALTERA CORPORATION; OC_FARNELL: 1438948; OC_NEWARK: 50H3058
footprint TSSOP16
part A pins: 1 S1B, 2 S3B, 3 DB, 4 S4B, 5 S2B, 6 !EN, 9 A1, 10 A0, 11 S4A, 12 S1A, 13 DA, 14 S2A, 15 S3A
part B pins: 7 VSS (power), 8 GND (power), 16 VDD (power)

## ADG1408YCPZ
designator IC?, comment 4 Ohm RON, 8-Channel, ±15 V/+12 V/±5 V iCMOS Multiplexers   Source: 8x ADG1408_1409.pdf
MPN: ADG1408YCPZ-REEL7; OC_FARNELL: 1438940; OC_NEWARK: 28M3585
footprint LFCSP16
part A pins: 2 S1, 3 S2, 4 S3, 5 S4, 6 D, 7 S8, 8 S7, 9 S6, 10 S5, 13 A2, 14 A1, 15 A0, 16 EN
part B pins: 1 VSS (power), 11 VDD (power), 12 GND (power), EXP

## ADG1408YRUZ
designator IC?, comment 4 Ohm RON, 8-Channel, ±15 V/+12 V/±5 V iCMOS Multiplexers   Source: 8x ADG1408_1409.pdf
MPN: ADG1408YRUZ; OC_FARNELL: 1438940; OC_NEWARK: 28M3586
footprint TSSOP16
part A pins: 1 A0, 2 EN, 4 S1, 5 S2, 6 S3, 7 S4, 8 D, 9 S8, 10 S7, 11 S6, 12 S5, 15 A2, 16 A1
part B pins: 3 VSS (power), 13 VDD (power), 14 GND (power)

## ADG1409YCPZ
designator IC?, comment 4 Ohm RON, 4-Channel, ±15 V/+12 V/±5 V iCMOS Multiplexers   Source: 8x ADG1408_1409.pdf
MPN: ADG1409YCPZ-REEL7; OC_FARNELL: 1438941; OC_NEWARK: 46M5169
footprint LFCSP16
part A pins: 2 S1A, 3 S2A, 4 S3A, 5 S4A, 6 DA, 7 DB, 8 S4B, 9 S3B, 10 S2B, 11 S1B, 14 A1, 15 A0, 16 EN
part B pins: 1 VSS (power), 12 VDD (power), 13 GND (power), EXP

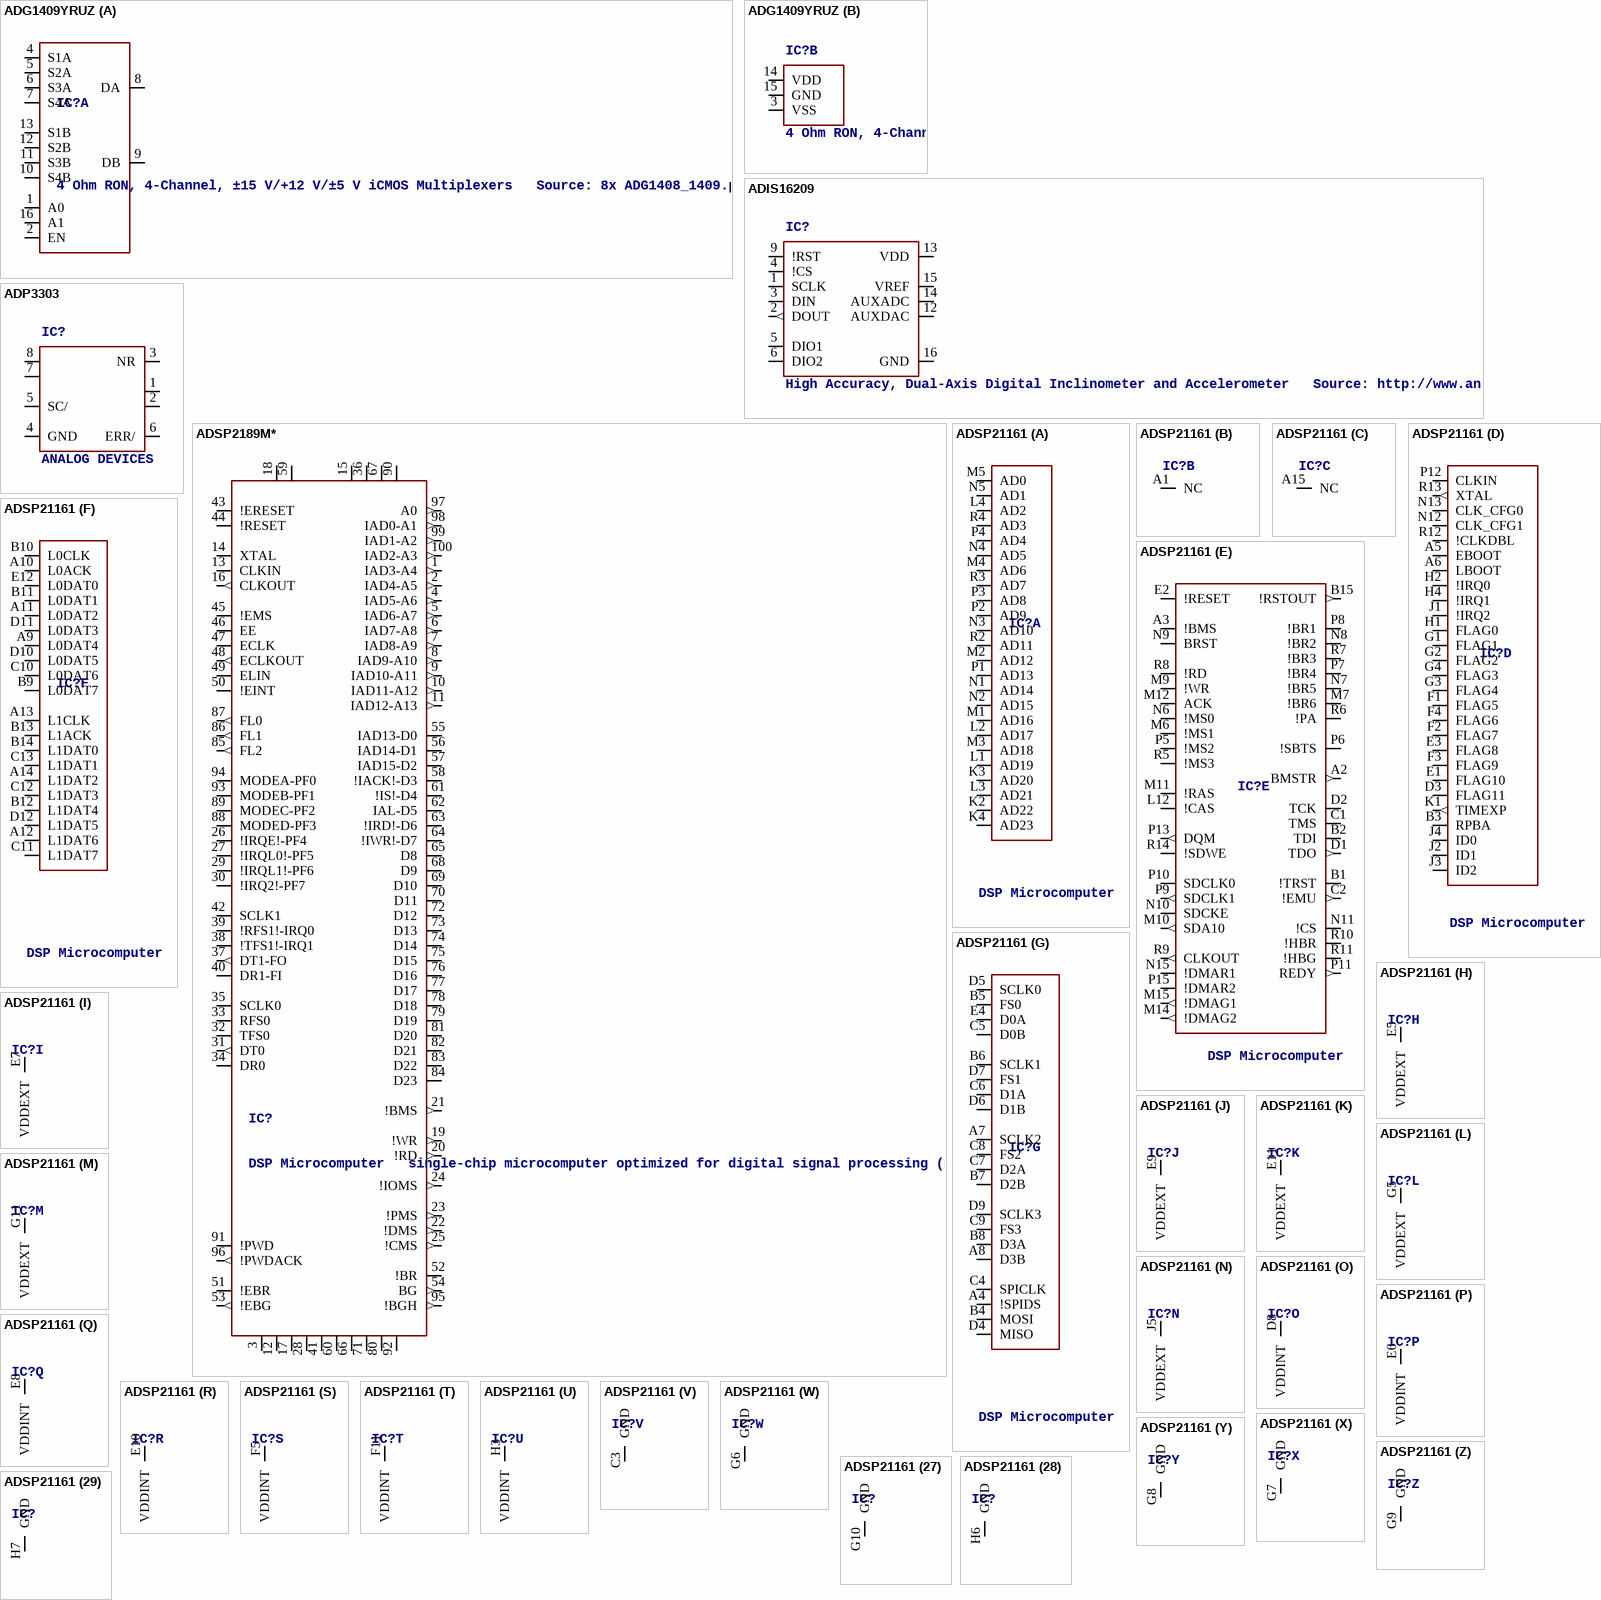
[diagram p25: symbols ADG1409YRUZ to ADSP21161]

## ADG1409YRUZ
designator IC?, comment 4 Ohm RON, 4-Channel, ±15 V/+12 V/±5 V iCMOS Multiplexers   Source: 8x ADG1408_1409.pdf
MPN: ADG1409YRUZ; OC_FARNELL: 1438941; OC_NEWARK: 55M3850
footprint TSSOP16
part A pins: 1 A0, 2 EN, 4 S1A, 5 S2A, 6 S3A, 7 S4A, 8 DA, 9 DB, 10 S4B, 11 S3B, 12 S2B, 13 S1B, 16 A1
part B pins: 3 VSS (power), 14 VDD (power), 15 GND (power)

## ADIS16209
designator IC?, comment High Accuracy, Dual-Axis Digital Inclinometer and Accelerometer   Source: http://www.analog.com/static/imported-files/data_sheets/ADIS16209.pdf
MPN: ADIS16209CCCZ; OC_FARNELL: 1607244; OC_NEWARK: 71M1609
footprint LGA16
pins: 1 SCLK, 2 DOUT (out), 3 DIN, 4 !CS, 5 DIO1, 6 DIO2, 9 !RST, 12 AUXDAC, 13 VDD (power), 14 AUXADC, 15 VREF, 16 GND (power)

## ADP3303
designator IC?, comment ANALOG DEVICES
MPN: ADP3303ARZ-5; OC_FARNELL: 1465451; OC_NEWARK: 19M8716
footprint SO8-COOL
pins: 1 OUT, 2 OUT@2, 3 NR, 4 GND (power), 5 SC/, 6 ERR/ (oc), 7 IN@1, 8 IN